# Altium schematic symbol library sun_library2.SchLib: 548 symbols (part 2 of 5)
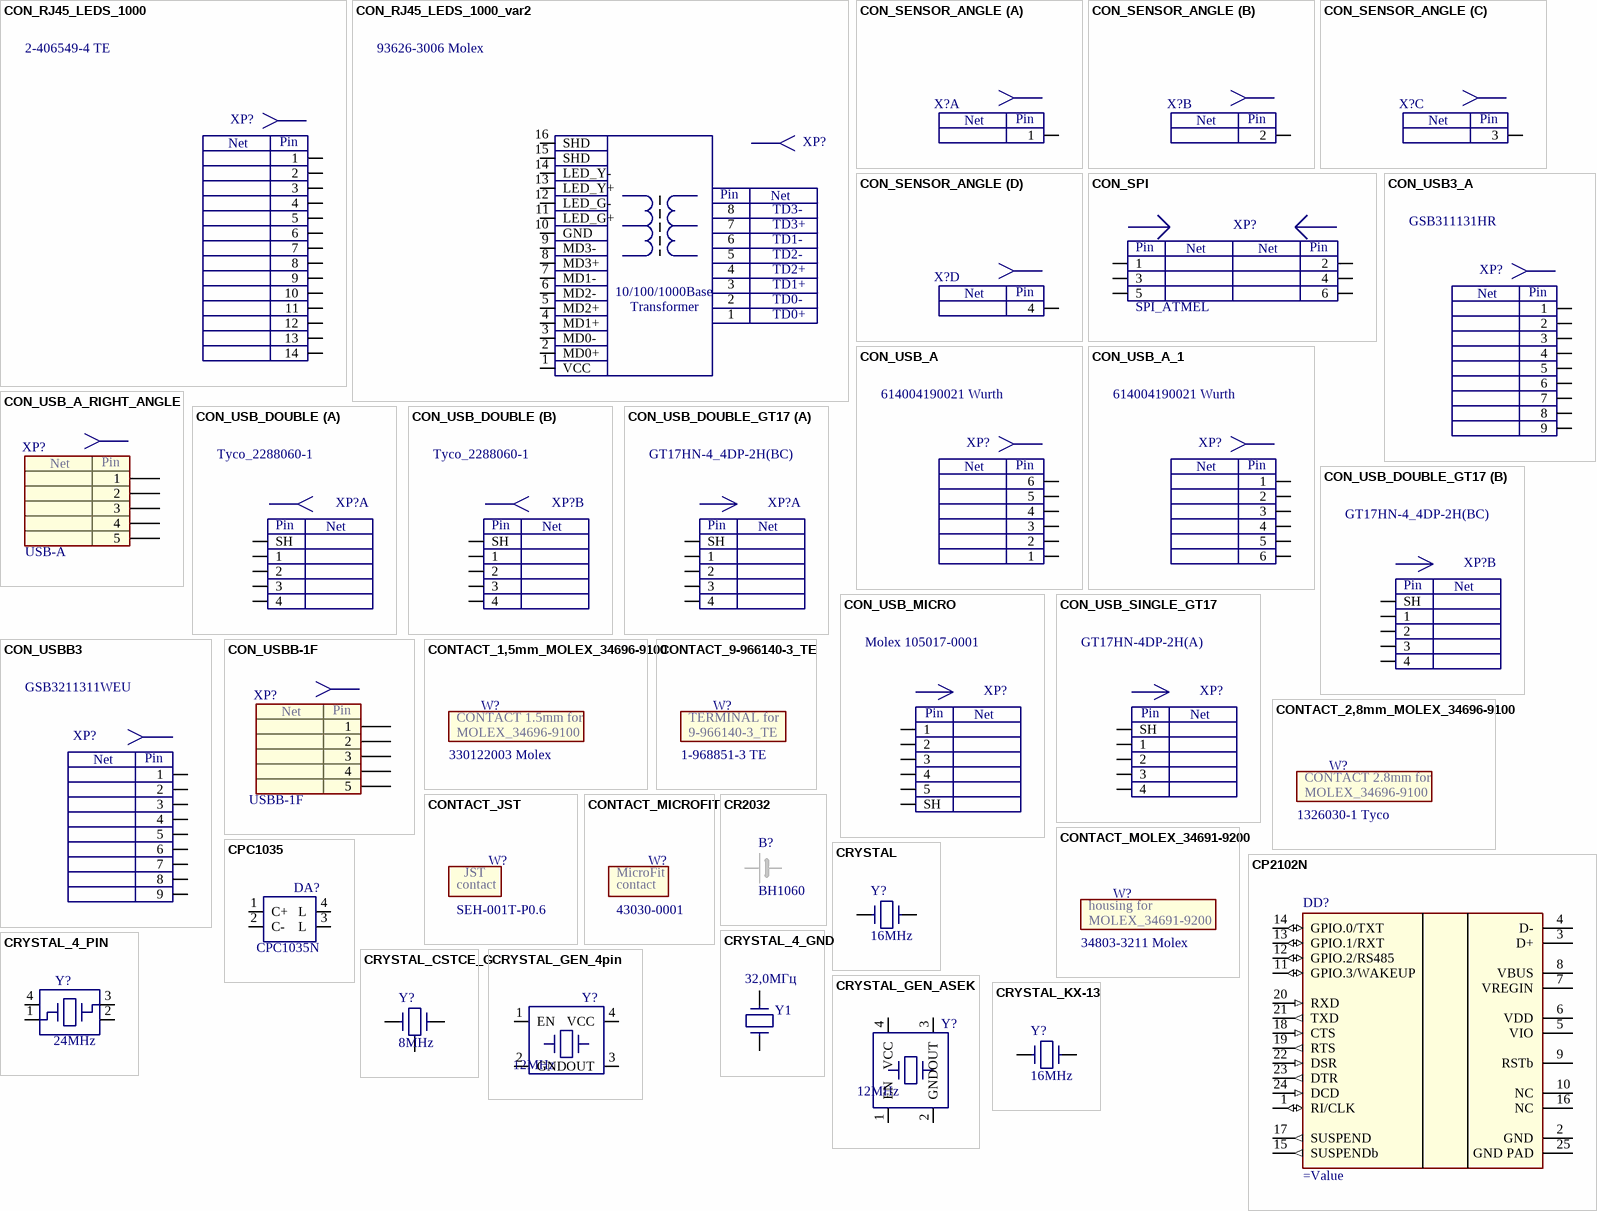
[diagram p46: symbols CON_RJ45_LEDS_1000 to CRYSTAL_KX-13]

## CP2102N
designator DD?
USB Interface IC USBXpress - USB to UART Bridge QFN20
pins: 1 RI/CLK (io), 2 GND (power), 3 D+, 4 D-, 5 VIO, 6 VDD, 7 VREGIN, 8 VBUS, 9 RSTb, 10 NC, 11 GPIO.3/WAKEUP (io), 12 GPIO.2/RS485 (io), 13 GPIO.1/RXT (io), 14 GPIO.0/TXT (io), 15 SUSPENDb (out), 16 NC, 17 SUSPEND (out), 18 CTS (in), 19 RTS (out), 20 RXD (in), 21 TXD (out), 22 DSR (in), 23 DTR (out), 24 DCD (in), 25 GND PAD (power)

## CPC1035
designator DA?, comment CPC1035N
м/сх; Value: CPC1035N
pins: 1 C+ (power), 2 C-, 3 L, 4 L

## CR2032
designator B?, comment BH1060
Держатель батарее CR2032; Value: BH1060
pins: 1, 2

## CRYSTAL
designator Y?, comment 16MHz
Резонатор кварцевый; Value: 16MHz
pins: 1, 2

## CRYSTAL_4_GND
designator Y1, comment 32,0МГц
Резонатор кварцевый; Value: 32,0МГц
footprint XTAL_2016
pins: 1, 2 GND hidden to GND, 3, 4 GND hidden to GND

## CRYSTAL_4_PIN
designator Y?, comment 24MHz
Резонатор кварцевый; Value: 24MHz
pins: 1, 2, 3, 4

## CRYSTAL_CSTCE_G
designator Y?, comment 8MHz
Резонатор кварцевый; Value: 8MHz
pins: 1, 2, 3

## CRYSTAL_GEN_4pin
designator Y?, comment 12MHz
Генератор кварцевый; Value: 12MHz
pins: 1 EN, 2 GND, 3 OUT, 4 VCC

## CRYSTAL_GEN_ASEK
designator Y?, comment 12MHz
Генератор кварцевый; Value: 12MHz
pins: 1 EN, 2 GND, 3 OUT, 4 VCC

## CRYSTAL_KX-13
designator Y?, comment 16MHz
Резонатор кварцевый; Value: 16MHz
pins: 1, 3

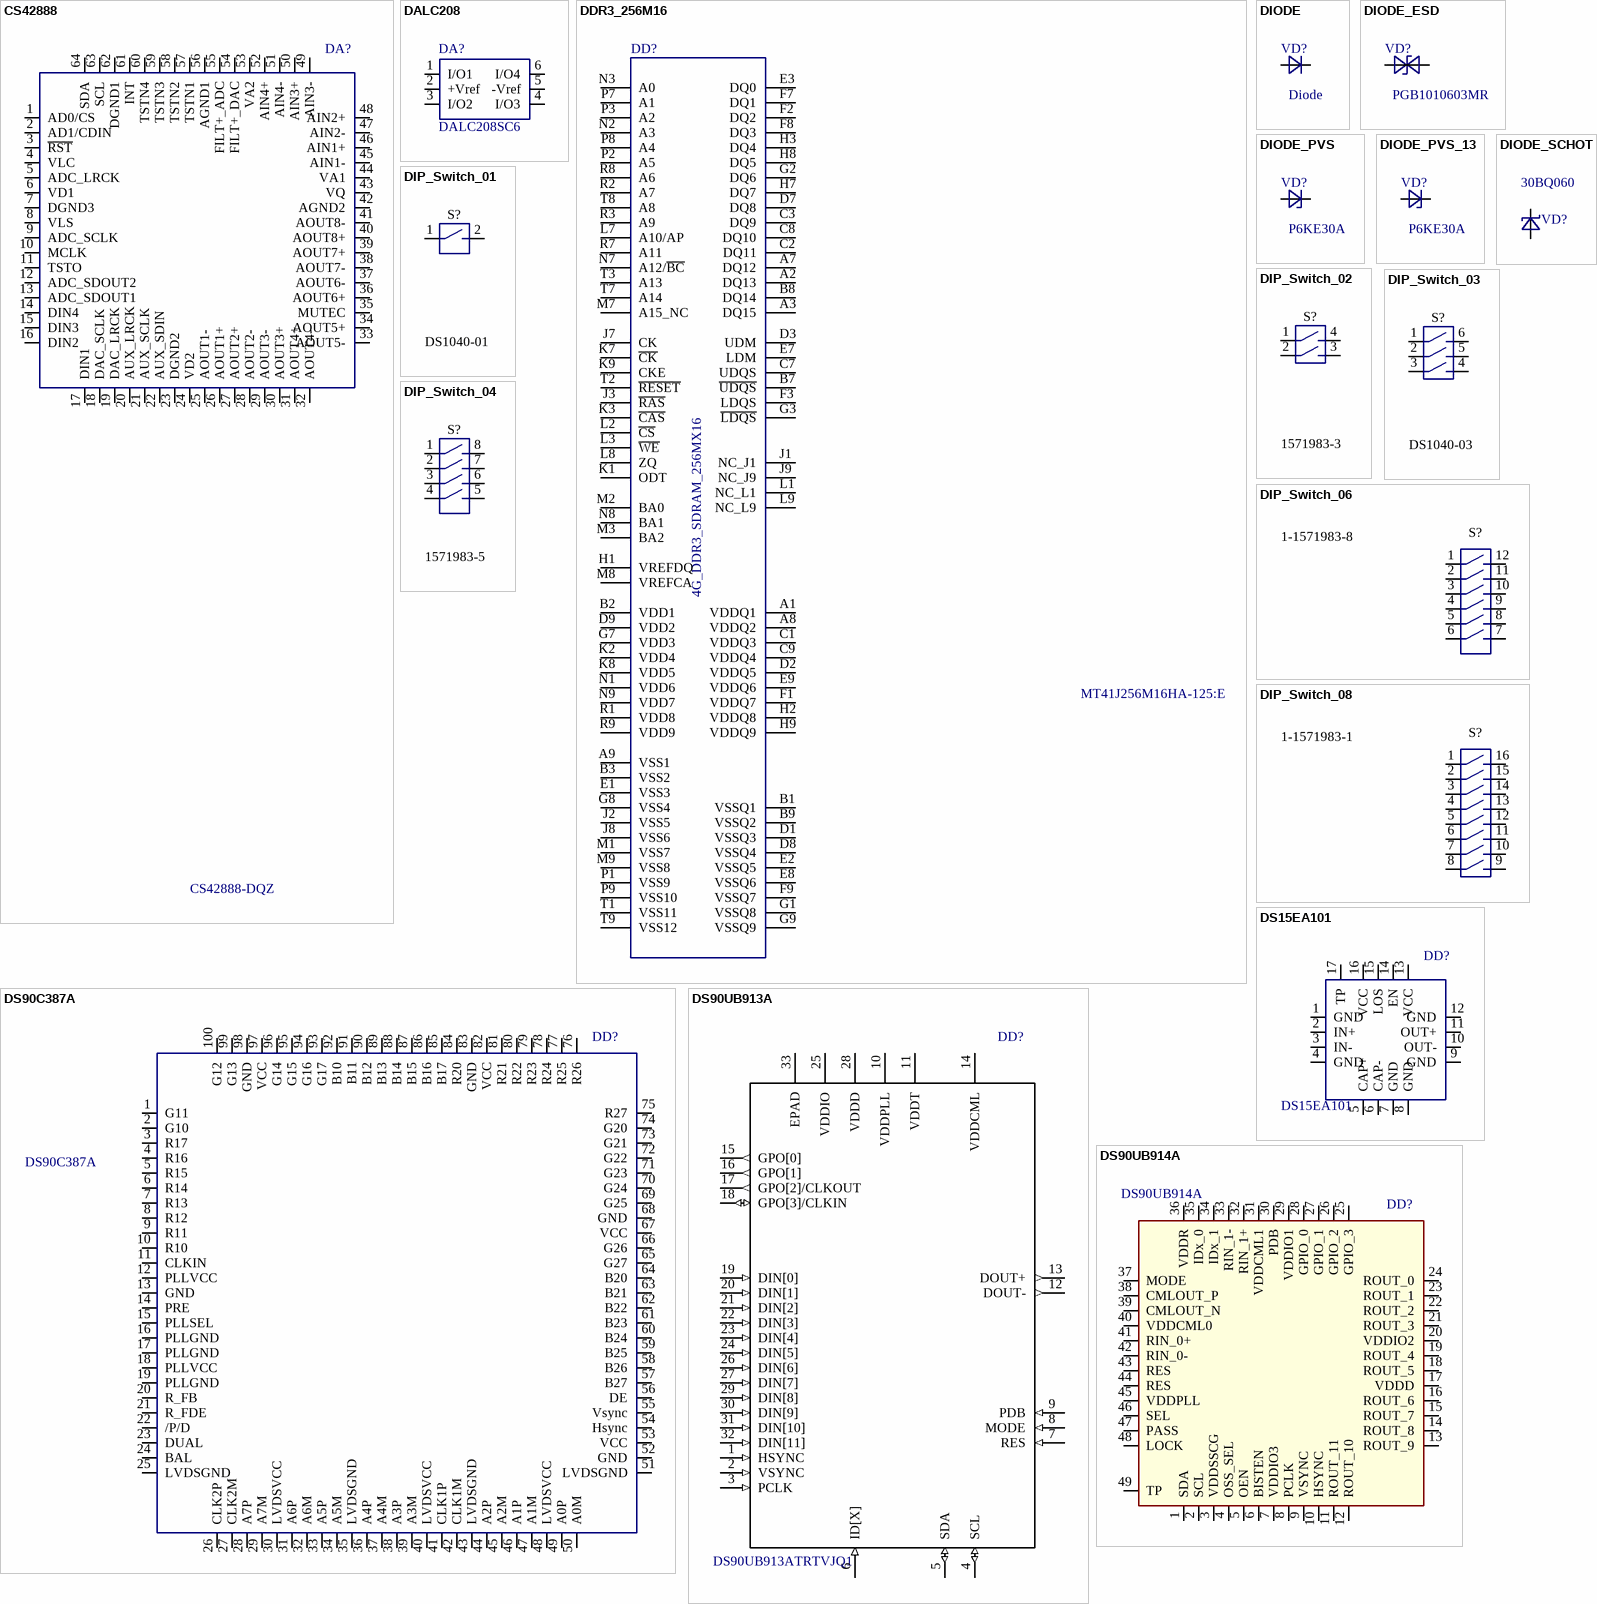
[diagram p13: symbols CS42888 to DS90UB914A]

## CS42888
designator DA?, comment CS42888-DQZ
IC CODEC 4IN 8OUT 192KHZ 64-LQFP; Value: CS42888-DQZ
pins: 1 AD0/CS, 2 AD1/CDIN, 3 ~{RST}, 4 VLC, 5 ADC_LRCK, 6 VD1, 7 DGND3, 8 VLS, 9 ADC_SCLK, 10 MCLK, 11 TSTO, 12 ADC_SDOUT2, 13 ADC_SDOUT1, 14 DIN4, 15 DIN3, 16 DIN2, 17 DIN1, 18 DAC_SCLK, 19 DAC_LRCK, 20 AUX_LRCK, 21 AUX_SCLK, 22 AUX_SDIN, 23 DGND2, 24 VD2, 25 AOUT1-, 26 AOUT1+, 27 AOUT2+, 28 AOUT2-, 29 AOUT3-, 30 AOUT3+, 31 AOUT4+, 32 AOUT4-, 33 AOUT5-, 34 AOUT5+, 35 MUTEC, 36 AOUT6+, 37 AOUT6-, 38 AOUT7-, 39 AOUT7+, 40 AOUT8+, 41 AOUT8-, 42 AGND2, 43 VQ, 44 VA1, 45 AIN1-, 46 AIN1+, 47 AIN2-, 48 AIN2+, 49 AIN3-, 50 AIN3+, 51 AIN4-, 52 AIN4+, 53 VA2, 54 FILT+_DAC, 55 FILT+_ADC, 56 AGND1, 57 TSTN1, 58 TSTN2, 59 TSTN3, 60 TSTN4, 61 INT, 62 DGND1, 63 SCL, 64 SDA

## DALC208
designator DA?, comment DALC208SC6
Low capacitance diode array; Value: DALC208SC6
footprint SOT23-6 (SOT23, 6-Leads, Body 2.9x1.6mm, Pitch 0.95mm, Lead Span 2.7mm, IPC Medium Density)
pins: 1 I/O1, 2 +Vref, 3 I/O2, 4 I/O3, 5 -Vref, 6 I/O4

## DDR3_256M16
designator DD?, comment MT41J256M16HA-125:E
IC DDR3 SDRAM 4GBIT 800MHZ FBGA; Value: MT41J256M16HA-125:E
pins: A1 VDDQ1, A2 DQ13, A3 DQ15, A7 DQ12, A8 VDDQ2, A9 VSS1, B1 VSSQ1, B2 VDD1, B3 VSS2, B7 ~{UDQS}, B8 DQ14, B9 VSSQ2, C1 VDDQ3, C2 DQ11, C3 DQ9, C7 UDQS, C8 DQ10, C9 VDDQ4, D1 VSSQ3, D2 VDDQ5, D3 UDM, D7 DQ8, D8 VSSQ4, D9 VDD2, E1 VSS3, E2 VSSQ5, E3 DQ0, E7 LDM, E8 VSSQ6, E9 VDDQ6, F1 VDDQ7, F2 DQ2, F3 LDQS, F7 DQ1, F8 DQ3, F9 VSSQ7, G1 VSSQ8, G2 DQ6, G3 ~{LDQS}, G7 VDD3, G8 VSS4, G9 VSSQ9, H1 VREFDQ, H2 VDDQ8, H3 DQ4, H7 DQ7, H8 DQ5, H9 VDDQ9, J1 NC_J1, J2 VSS5, J3 ~{RAS}, J7 CK, J8 VSS6, J9 NC_J9, K1 ODT, K2 VDD4, K3 ~{CAS}, K7 ~{CK}, K8 VDD5, K9 CKE, L1 NC_L1, L2 ~{CS}, L3 ~{WE}, L7 A10/AP, L8 ZQ, L9 NC_L9, M1 VSS7, M2 BA0, M3 BA2, M7 A15_NC, M8 VREFCA, M9 VSS8, N1 VDD6, N2 A3, N3 A0, N7 A12/~{BC}, N8 BA1, N9 VDD7, P1 VSS9, P2 A5, P3 A2, P7 A1, P8 A4, P9 VSS10, R1 VDD8, R2 A7, R3 A9, R7 A11, R8 A6, R9 VDD9, T1 VSS11, T2 ~{RESET}, T3 A13, T7 A14, T8 A8, T9 VSS12
text: 4G_DDR3_SDRAM_256MX16

## DIODE
designator VD?, comment Diode
диод, SMD; Value: Diode
pins: 1 C, 2 A

## DIODE_ESD
designator VD?, comment PGB1010603MR
диод, ESD защиты SMD; Value: PGB1010603MR
pins: 1 C, 2 A

## DIODE_PVS
designator VD?, comment P6KE30A
диод, SMD; Value: P6KE30A
pins: 1 C, 2 A

## DIODE_PVS_13
designator VD?, comment P6KE30A
диод, SMD; Value: P6KE30A
pins: 1 C, 2 A

## DIODE_SCHOT
designator VD?, comment 30BQ060
DIODE_SCHOTTKE; Value: 30BQ060
pins: 1 C, 2 A

## DIP_Switch_01
designator S?, comment DS1040-01
Переключатель DIP_Switch_01; Value: DS1040-01
pins: 1, 2

## DIP_Switch_02
designator S?, comment 1571983-3
Переключатель 1-1571983-3 TE Connectivity; Value: 1571983-3
pins: 1, 2, 3, 4

## DIP_Switch_03
designator S?, comment DS1040-03
Переключатель DIP_Switch_03; Value: DS1040-03
pins: 1, 2, 3, 4, 5, 6

## DIP_Switch_04
designator S?, comment 1571983-5
Переключатель 1-1571983-5 TE Connectivity; Value: 1571983-5
pins: 1, 2, 3, 4, 5, 6, 7, 8

## DIP_Switch_06
designator S?, comment 1-1571983-8
Переключатель 1-1571983-8 TE Connectivity; Value: 1-1571983-8
pins: 1, 2, 3, 4, 5, 6, 7, 8, 9, 10, 11, 12

## DIP_Switch_08
designator S?, comment 1-1571983-1
Переключатель 1-1571983-1 TE Connectivity; Identifier: 1-1571983-1 TE Connectivity; Manufacturer: TE Connectivity; Part Number: 1-1571983-1; Operating Temperature: -30 to 85 °C; Value: 1-1571983-1
footprint DIP_SW-8
pins: 1, 2, 3, 4, 5, 6, 7, 8, 9, 10, 11, 12, 13, 14, 15, 16

## DS15EA101
designator DD?
Value: DS15EA101
footprint SQA16A (16-pin LLC)
pins: 1 GND, 2 IN+, 3 IN-, 4 GND, 5 CAP+, 6 CAP-, 7 GND, 8 GND, 9 GND, 10 OUT-, 11 OUT+, 12 GND, 13 VCC, 14 EN, 15 LOS, 16 VCC, 17 TP

## DS90C387A
designator DD?
DS90C387A Dual Pixel LVDS Display Interface; Value: DS90C387A
pins: 1 G11, 2 G10, 3 R17, 4 R16, 5 R15, 6 R14, 7 R13, 8 R12, 9 R11, 10 R10, 11 CLKIN, 12 PLLVCC, 13 GND, 14 PRE, 15 PLLSEL, 16 PLLGND, 17 PLLGND, 18 PLLVCC, 19 PLLGND, 20 R_FB, 21 R_FDE, 22 /P/D, 23 DUAL, 24 BAL, 25 LVDSGND, 26 CLK2P, 27 CLK2M, 28 A7P, 29 A7M, 30 LVDSVCC, 31 A6P, 32 A6M, 33 A5P, 34 A5M, 35 LVDSGND, 36 A4P, 37 A4M, 38 A3P, 39 A3M, 40 LVDSVCC, 41 CLK1P, 42 CLK1M, 43 LVDSGND, 44 A2P, 45 A2M, 46 A1P, 47 A1M, 48 LVDSVCC, 49 A0P, 50 A0M, 51 LVDSGND, 52 GND, 53 VCC, 54 Hsync, 55 Vsync, 56 DE, 57 B27, 58 B26, 59 B25, 60 B24, 61 B23, 62 B22, 63 B21, 64 B20, 65 G27, 66 G26, 67 VCC, 68 GND, 69 G25, 70 G24, 71 G23, 72 G22, 73 G21, 74 G20, 75 R27, 76 R26, 77 R25, 78 R24, 79 R23, 80 R22, 81 R21, 82 VCC, 83 GND, 84 R20, 85 B17, 86 B16, 87 B15, 88 B14, 89 B13, 90 B12, 91 B11, 92 B10, 93 G17, 94 G16, 95 G15, 96 G14, 97 VCC, 98 GND, 99 G13, 100 G12

## DS90UB913A
designator DD?, comment DS90UB913ATRTVJQ1
No Description Available
pins: 1 HSYNC (in), 2 VSYNC (in), 3 PCLK (in), 4 SCL (io), 5 SDA (io), 6 ID[X] (in), 7 RES (in), 8 MODE (in), 9 PDB (in), 10 VDDPLL (power), 11 VDDT (power), 12 DOUT- (out), 13 DOUT+ (out), 14 VDDCML (power), 15 GPO[0] (out), 16 GPO[1] (out), 17 GPO[2]/CLKOUT (out), 18 GPO[3]/CLKIN (io), 19 DIN[0] (in), 20 DIN[1] (in), 21 DIN[2] (in), 22 DIN[3] (in), 23 DIN[4] (in), 24 DIN[5] (in), 25 VDDIO (power), 26 DIN[6] (in), 27 DIN[7] (in), 28 VDDD (power), 29 DIN[8] (in), 30 DIN[9] (in), 31 DIN[10] (in), 32 DIN[11] (in), 33 EPAD

## DS90UB914A
designator DD?
Микросхема; Manufacturer: Texas Instruments; Part Number: DS90UB914ATRHS; Identifier: DS90UB914A WQFN48 Texas Instruments; Case: WQFN48; Operating Temperature: -40°C to 105°C; Value: DS90UB914A
pins: 1 SDA, 2 SCL, 3 VDDSSCG, 4 OSS_SEL, 5 OEN, 6 BISTEN, 7 VDDIO3, 8 PCLK, 9 VSYNC, 10 HSYNC, 11 ROUT_11, 12 ROUT_10, 13 ROUT_9, 14 ROUT_8, 15 ROUT_7, 16 ROUT_6, 17 VDDD, 18 ROUT_5, 19 ROUT_4, 20 VDDIO2, 21 ROUT_3, 22 ROUT_2, 23 ROUT_1, 24 ROUT_0, 25 GPIO_3, 26 GPIO_2, 27 GPIO_1, 28 GPIO_0, 29 VDDIO1, 30 PDB, 31 VDDCML1, 32 RIN_1+, 33 RIN_1-, 34 IDx_1, 35 IDx_0, 36 VDDR, 37 MODE, 38 CMLOUT_P, 39 CMLOUT_N, 40 VDDCML0, 41 RIN_0+, 42 RIN_0-, 43 RES, 44 RES, 45 VDDPLL, 46 SEL, 47 PASS, 48 LOCK, 49 TP

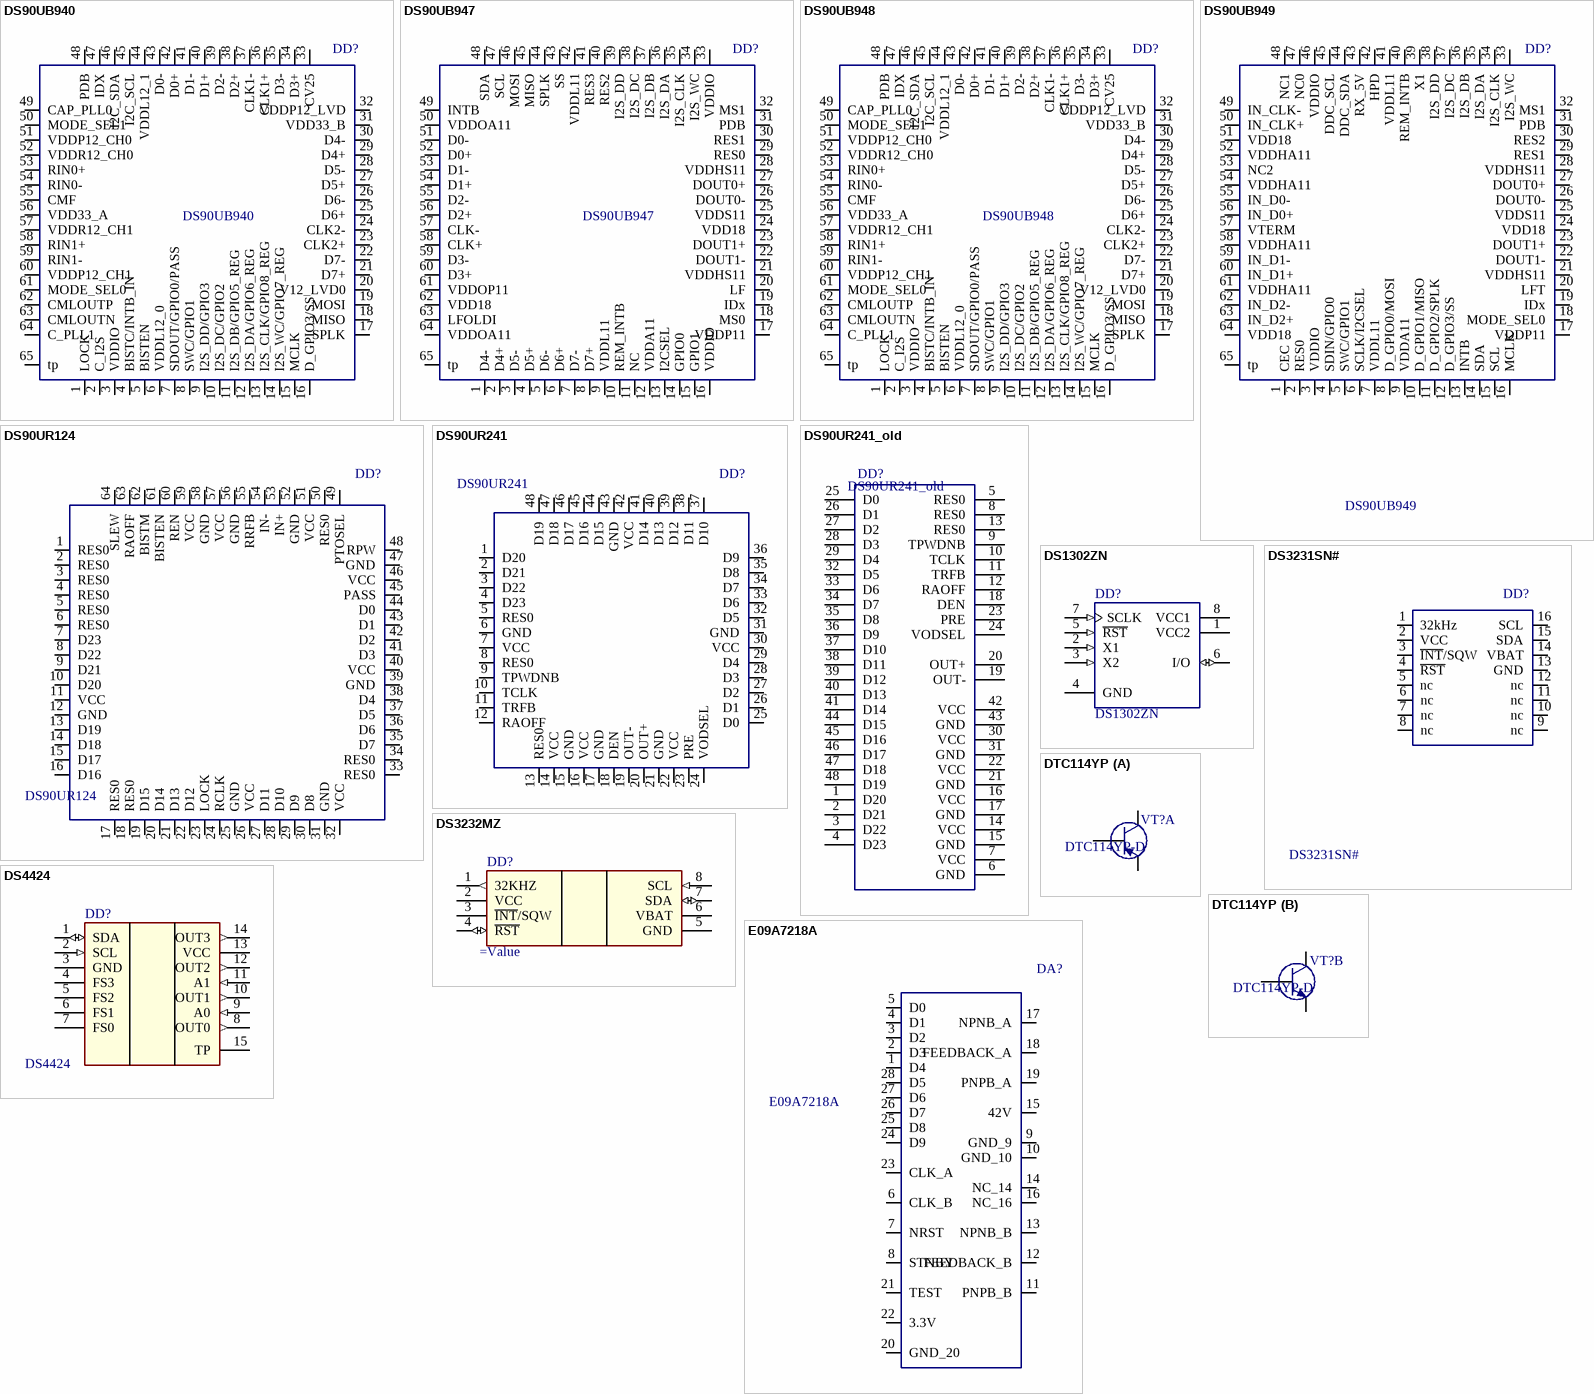
[diagram p14: symbols DS90UB940 to E09A7218A]

## DS90UB940
designator DD?
FPD-Link III to CSI-2 Deserializer; Value: DS90UB940
pins: 1 LOCK, 2 C_I2S, 3 VDDIO, 4 BISTC/INTB_IN, 5 BISTEN, 6 VDDL12_0, 7 SDOUT/GPIO0/PASS, 8 SWC/GPIO1, 9 I2S_DD/GPIO3, 10 I2S_DC/GPIO2, 11 I2S_DB/GPIO5_REG, 12 I2S_DA/GPIO6_REG, 13 I2S_CLK/GPIO8_REG, 14 I2S_WC/GPIO7_REG, 15 MCLK, 16 D_GPIO3/SS, 17 SPLK, 18 MISO, 19 MOSI, 20 V12_LVD0, 21 D7+, 22 D7-, 23 CLK2+, 24 CLK2-, 25 D6+, 26 D6-, 27 D5+, 28 D5-, 29 D4+, 30 D4-, 31 VDD33_B, 32 VDDP12_LVD, 33 CV25, 34 D3+, 35 D3-, 36 CLK1+, 37 CLK1-, 38 D2+, 39 D2-, 40 D1+, 41 D1-, 42 D0+, 43 D0-, 44 VDDL12_1, 45 I2C_SCL, 46 I2C_SDA, 47 IDX, 48 PDB, 49 CAP_PLL0, 50 MODE_SEL1, 51 VDDP12_CH0, 52 VDDR12_CH0, 53 RIN0+, 54 RIN0-, 55 CMF, 56 VDD33_A, 57 VDDR12_CH1, 58 RIN1+, 59 RIN1-, 60 VDDP12_CH1, 61 MODE_SEL0, 62 CMLOUTP, 63 CMLOUTN, 64 C_PLL1, 65 tp

## DS90UB947
designator DD?
1080p OpenLDI to FPD-Link III Serializer; Value: DS90UB947
pins: 1 D4-, 2 D4+, 3 D5-, 4 D5+, 5 D6-, 6 D6+, 7 D7-, 8 D7+, 9 VDDL11, 10 REM_INTB, 11 NC, 12 VDDA11, 13 I2CSEL, 14 GPIO0, 15 GPIO1, 16 VDDIO, 17 VDDP11, 18 MS0, 19 IDx, 20 LF, 21 VDDHS11, 22 DOUT1-, 23 DOUT1+, 24 VDD18, 25 VDDS11, 26 DOUT0-, 27 DOUT0+, 28 VDDHS11, 29 RES0, 30 RES1, 31 PDB, 32 MS1, 33 VDDIO, 34 I2S_WC, 35 I2S_CLK, 36 I2S_DA, 37 I2S_DB, 38 I2S_DC, 39 I2S_DD, 40 RES2, 41 RES3, 42 VDDL11, 43 SS, 44 SPLK, 45 MISO, 46 MOSI, 47 SCL, 48 SDA, 49 INTB, 50 VDDOA11, 51 D0-, 52 D0+, 53 D1-, 54 D1+, 55 D2-, 56 D2+, 57 CLK-, 58 CLK+, 59 D3-, 60 D3+, 61 VDDOP11, 62 VDD18, 63 LFOLDI, 64 VDDOA11, 65 tp

## DS90UB948
designator DD?
1080p FPD-Link III to OpenLDI Deserializer; Value: DS90UB948
pins: 1 LOCK, 2 C_I2S, 3 VDDIO, 4 BISTC/INTB_IN, 5 BISTEN, 6 VDDL12_0, 7 SDOUT/GPIO0/PASS, 8 SWC/GPIO1, 9 I2S_DD/GPIO3, 10 I2S_DC/GPIO2, 11 I2S_DB/GPIO5_REG, 12 I2S_DA/GPIO6_REG, 13 I2S_CLK/GPIO8_REG, 14 I2S_WC/GPIO7_REG, 15 MCLK, 16 D_GPIO3/SS, 17 SPLK, 18 MISO, 19 MOSI, 20 V12_LVD0, 21 D7+, 22 D7-, 23 CLK2+, 24 CLK2-, 25 D6+, 26 D6-, 27 D5+, 28 D5-, 29 D4+, 30 D4-, 31 VDD33_B, 32 VDDP12_LVD, 33 CV25, 34 D3+, 35 D3-, 36 CLK1+, 37 CLK1-, 38 D2+, 39 D2-, 40 D1+, 41 D1-, 42 D0+, 43 D0-, 44 VDDL12_1, 45 I2C_SCL, 46 I2C_SDA, 47 IDX, 48 PDB, 49 CAP_PLL0, 50 MODE_SEL1, 51 VDDP12_CH0, 52 VDDR12_CH0, 53 RIN0+, 54 RIN0-, 55 CMF, 56 VDD33_A, 57 VDDR12_CH1, 58 RIN1+, 59 RIN1-, 60 VDDP12_CH1, 61 MODE_SEL0, 62 CMLOUTP, 63 CMLOUTN, 64 C_PLL1, 65 tp

## DS90UB949
designator DD?
HDMI to FPD-Link III Bridge Serializer; Value: DS90UB949
pins: 1 CEC, 2 RES0, 3 VDDIO, 4 SDIN/GPIO0, 5 SWC/GPIO1, 6 SCLK/I2CSEL, 7 VDDL11, 8 D_GPIO0/MOSI, 9 VDDA11, 10 D_GPIO1/MISO, 11 D_GPIO2/SPLK, 12 D_GPIO3/SS, 13 INTB, 14 SDA, 15 SCL, 16 MCLK, 17 VDDP11, 18 MODE_SEL0, 19 IDx, 20 LFT, 21 VDDHS11, 22 DOUT1-, 23 DOUT1+, 24 VDD18, 25 VDDS11, 26 DOUT0-, 27 DOUT0+, 28 VDDHS11, 29 RES1, 30 RES2, 31 PDB, 32 MS1, 33 I2S_WC, 34 I2S_CLK, 35 I2S_DA, 36 I2S_DB, 37 I2S_DC, 38 I2S_DD, 39 X1, 40 REM_INTB, 41 VDDL11, 42 HPD, 43 RX_5V, 44 DDC_SDA, 45 DDC_SCL, 46 VDDIO, 47 NC0, 48 NC1, 49 IN_CLK-, 50 IN_CLK+, 51 VDD18, 52 VDDHA11, 53 NC2, 54 VDDHA11, 55 IN_D0-, 56 IN_D0+, 57 VTERM, 58 VDDHA11, 59 IN_D1-, 60 IN_D1+, 61 VDDHA11, 62 IN_D2-, 63 IN_D2+, 64 VDD18, 65 tp

## DS90UR124
designator DD?
LVDS 1:24 Deserializer; Value: DS90UR124
footprint LQFP64 (Footprint not found)
pins: 1 RES0, 2 RES0, 3 RES0, 4 RES0, 5 RES0, 6 RES0, 7 D23, 8 D22, 9 D21, 10 D20, 11 VCC (power), 12 GND (power), 13 D19, 14 D18, 15 D17, 16 D16, 17 RES0, 18 RES0, 19 D15, 20 D14, 21 D13, 22 D12, 23 LOCK, 24 RCLK, 25 GND (power), 26 VCC (power), 27 D11, 28 D10, 29 D9, 30 D8, 31 GND (power), 32 VCC (power), 33 RES0, 34 RES0, 35 D7, 36 D6, 37 D5, 38 D4, 39 GND (power), 40 VCC (power), 41 D3, 42 D2, 43 D1, 44 D0, 45 PASS, 46 VCC (power), 47 GND (power), 48 RPW, 49 PTOSEL, 50 RES0, 51 VCC (power), 52 GND (power), 53 IN+, 54 IN-, 55 RRFB, 56 GND (power), 57 VCC (power), 58 GND (power), 59 VCC (power), 60 REN, 61 BISTEN, 62 BISTM, 63 RAOFF, 64 SLEW

## DS90UR241
designator DD?
м/сх; Value: DS90UR241
pins: 1 D20, 2 D21, 3 D22, 4 D23, 5 RES0, 6 GND (power), 7 VCC (power), 8 RES0, 9 TPWDNB, 10 TCLK, 11 TRFB, 12 RAOFF, 13 RES0, 14 VCC (power), 15 GND (power), 16 VCC (power), 17 GND (power), 18 DEN, 19 OUT-, 20 OUT+, 21 GND (power), 22 VCC (power), 23 PRE, 24 VODSEL, 25 D0, 26 D1, 27 D2, 28 D3, 29 D4, 30 VCC (power), 31 GND (power), 32 D5, 33 D6, 34 D7, 35 D8, 36 D9, 37 D10, 38 D11, 39 D12, 40 D13, 41 D14, 42 VCC (power), 43 GND (power), 44 D15, 45 D16, 46 D17, 47 D18, 48 D19

## DS90UR241_old
designator DD?
м/сх; Value: DS90UR241_old
pins: 1 D20, 2 D21, 3 D22, 4 D23, 5 RES0, 6 GND (power), 7 VCC (power), 8 RES0, 9 TPWDNB, 10 TCLK, 11 TRFB, 12 RAOFF, 13 RES0, 14 VCC (power), 15 GND (power), 16 VCC (power), 17 GND (power), 18 DEN, 19 OUT-, 20 OUT+, 21 GND (power), 22 VCC (power), 23 PRE, 24 VODSEL, 25 D0, 26 D1, 27 D2, 28 D3, 29 D4, 30 VCC (power), 31 GND (power), 32 D5, 33 D6, 34 D7, 35 D8, 36 D9, 37 D10, 38 D11, 39 D12, 40 D13, 41 D14, 42 VCC (power), 43 GND (power), 44 D15, 45 D16, 46 D17, 47 D18, 48 D19

## DS1302ZN
designator DD?
Микросхема; Value: DS1302ZN
pins: 1 VCC2 (power), 2 X1 (in), 3 X2 (in), 4 GND (power), 5 ~{RST} (in), 6 I/O (io), 7 SCLK (in), 8 VCC1 (power)

## DS3231SN#
designator DD?
Extremely Accurate I2C-Integrated  RTC/TCXO/Crystal; Value: DS3231SN#
pins: 1 32kHz, 2 VCC, 3 ~{INT}/SQW, 4 ~{RST}, 5 nc, 6 nc, 7 nc, 8 nc, 9 nc, 10 nc, 11 nc, 12 nc, 13 GND, 14 VBAT, 15 SDA, 16 SCL (power)

## DS3232MZ
designator DD?
Микросхема
pins: 1 32KHZ (out), 2 VCC (power), 3 ~{INT}/SQW (oc), 4 ~{RST} (io), 5 GND (power), 6 VBAT (power), 7 SDA (io), 8 SCL (in)

## DS4424
designator DD?
Value: DS4424
footprint TDFN14 (14-Pin Plastic Dual 3x3 Flat No-Lead 0.4 mm Pitch, IPC Low Density)
pins: 1 SDA (io), 2 SCL (in), 3 GND (power), 4 FS3, 5 FS2, 6 FS1, 7 FS0, 8 OUT0 (out), 9 A0 (in), 10 OUT1 (out), 11 A1 (in), 12 OUT2 (out), 13 VCC (power), 14 OUT3 (out), 15 TP (power)

## DTC114YP
designator VT?, comment DTC114YP-D
Value: DTC114YP-D
part A pins: 3 C, 4 E, 5 B
part B pins: 1 E, 2 B, 6 C

## E09A7218A
designator DA?
DAC EPSON; Value: E09A7218A
pins: 1 D4, 2 D3, 3 D2, 4 D1, 5 D0, 6 CLK_B, 7 NRST, 8 STNBY, 9 GND_9, 10 GND_10, 11 PNPB_B, 12 FEEDBACK_B, 13 NPNB_B, 14 NC_14, 15 42V, 16 NC_16, 17 NPNB_A, 18 FEEDBACK_A, 19 PNPB_A, 20 GND_20, 21 TEST, 22 3.3V, 23 CLK_A, 24 D9, 25 D8, 26 D7, 27 D6, 28 D5

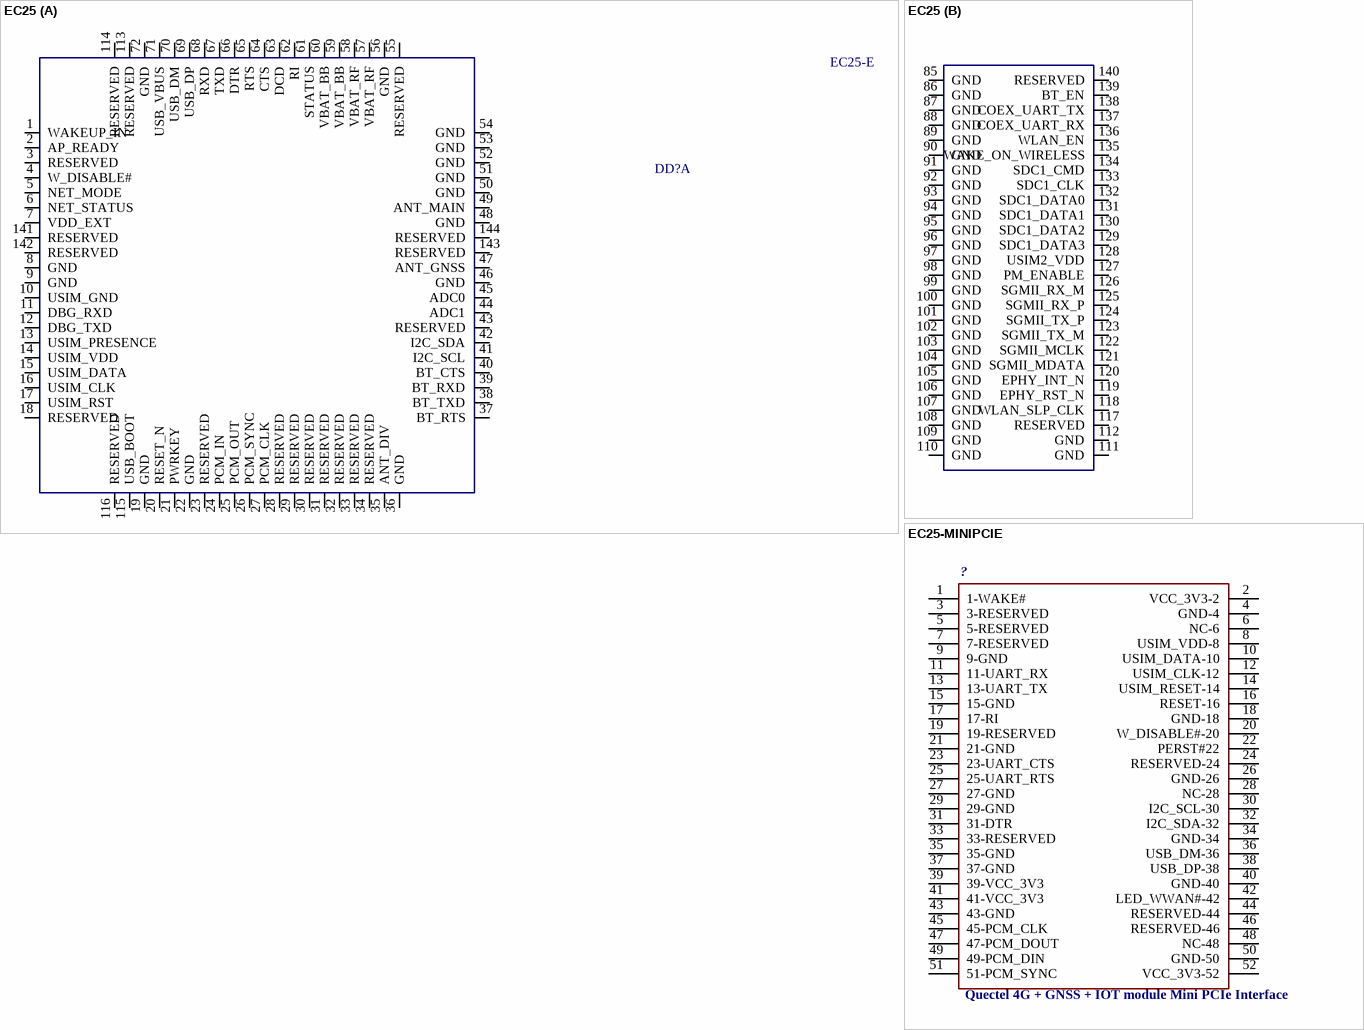
[diagram p15: symbols EC25 to EC25-MINIPCIE]

## EC25
designator DD?, comment EC25-E
Value: EC25-E
part A pins: 1 WAKEUP_IN, 2 AP_READY, 3 RESERVED, 4 W_DISABLE#, 5 NET_MODE, 6 NET_STATUS, 7 VDD_EXT, 8 GND, 9 GND, 10 USIM_GND, 11 DBG_RXD, 12 DBG_TXD, 13 USIM_PRESENCE, 14 USIM_VDD, 15 USIM_DATA, 16 USIM_CLK, 17 USIM_RST, 18 RESERVED, 19 GND, 20 RESET_N, 21 PWRKEY, 22 GND, 23 RESERVED, 24 PCM_IN, 25 PCM_OUT, 26 PCM_SYNC, 27 PCM_CLK, 28 RESERVED, 29 RESERVED, 30 RESERVED, 31 RESERVED, 32 RESERVED, 33 RESERVED, 34 RESERVED, 35 ANT_DIV, 36 GND, 37 BT_RTS, 38 BT_TXD, 39 BT_RXD, 40 BT_CTS, 41 I2C_SCL, 42 I2C_SDA, 43 RESERVED, 44 ADC1, 45 ADC0, 46 GND, 47 ANT_GNSS, 48 GND, 49 ANT_MAIN, 50 GND, 51 GND, 52 GND, 53 GND, 54 GND, 55 RESERVED, 56 GND, 57 VBAT_RF, 58 VBAT_RF, 59 VBAT_BB, 60 VBAT_BB, 61 STATUS, 62 RI, 63 DCD, 64 CTS, 65 RTS, 66 DTR, 67 TXD, 68 RXD, 69 USB_DP, 70 USB_DM, 71 USB_VBUS, 72 GND, 113 RESERVED, 114 RESERVED, 115 USB_BOOT, 116 RESERVED, 141 RESERVED, 142 RESERVED, 143 RESERVED, 144 RESERVED
part B pins: 85 GND, 86 GND, 87 GND, 88 GND, 89 GND, 90 GND, 91 GND, 92 GND, 93 GND, 94 GND, 95 GND, 96 GND, 97 GND, 98 GND, 99 GND, 100 GND, 101 GND, 102 GND, 103 GND, 104 GND, 105 GND, 106 GND, 107 GND, 108 GND, 109 GND, 110 GND, 111 GND, 112 GND, 117 RESERVED, 118 WLAN_SLP_CLK, 119 EPHY_RST_N, 120 EPHY_INT_N, 121 SGMII_MDATA, 122 SGMII_MCLK, 123 SGMII_TX_M, 124 SGMII_TX_P, 125 SGMII_RX_P, 126 SGMII_RX_M, 127 PM_ENABLE, 128 USIM2_VDD, 129 SDC1_DATA3, 130 SDC1_DATA2, 131 SDC1_DATA1, 132 SDC1_DATA0, 133 SDC1_CLK, 134 SDC1_CMD, 135 WAKE_ON_WIRELESS, 136 WLAN_EN, 137 COEX_UART_RX, 138 COEX_UART_TX, 139 BT_EN, 140 RESERVED

## EC25-MINIPCIE
designator ?, comment Quectel 4G + GNSS + IOT module Mini PCIe Interface
MPN: Quectel EC25-x Mini Pci express
footprint EC25-MINIPCIE
pins: 1 1-WAKE#, 2 VCC_3V3-2, 3 3-RESERVED, 4 GND-4, 5 5-RESERVED, 6 NC-6, 7 7-RESERVED, 8 USIM_VDD-8, 9 9-GND, 10 USIM_DATA-10, 11 11-UART_RX, 12 USIM_CLK-12, 13 13-UART_TX, 14 USIM_RESET-14, 15 15-GND, 16 RESET-16, 17 17-RI, 18 GND-18, 19 19-RESERVED, 20 W_DISABLE#-20, 21 21-GND, 22 PERST#22, 23 23-UART_CTS, 24 RESERVED-24, 25 25-UART_RTS, 26 GND-26, 27 27-GND, 28 NC-28, 29 29-GND, 30 I2C_SCL-30, 31 31-DTR, 32 I2C_SDA-32, 33 33-RESERVED, 34 GND-34, 35 35-GND, 36 USB_DM-36, 37 37-GND, 38 USB_DP-38, 39 39-VCC_3V3, 40 GND-40, 41 41-VCC_3V3, 42 LED_WWAN#-42, 43 43-GND (power), 44 RESERVED-44, 45 45-PCM_CLK, 46 RESERVED-46, 47 47-PCM_DOUT, 48 NC-48, 49 49-PCM_DIN, 50 GND-50, 51 51-PCM_SYNC, 52 VCC_3V3-52

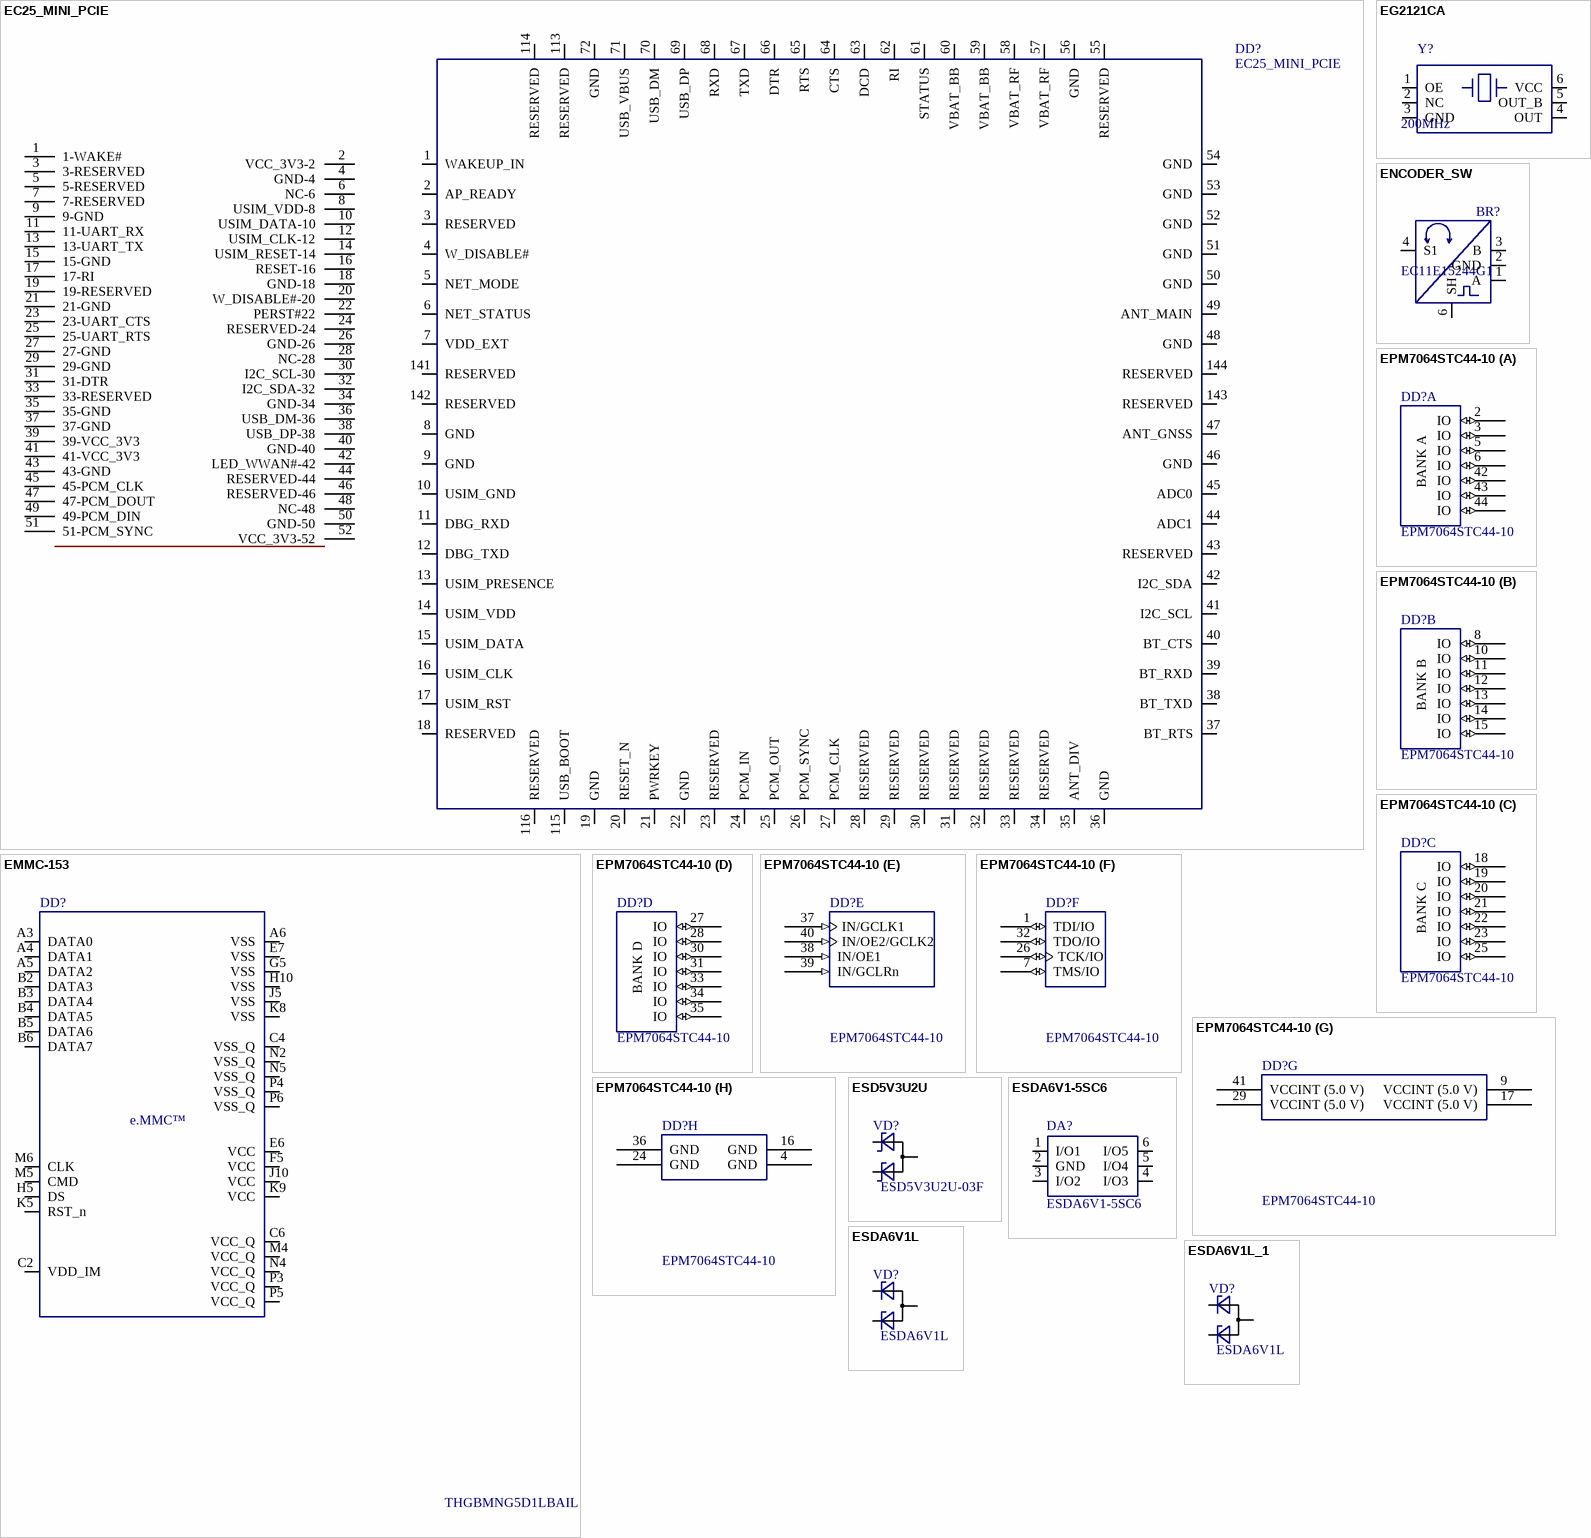
[diagram p16: symbols EC25_MINI_PCIE to ESDA6V1L_1]

## EC25_MINI_PCIE
designator DD?
Quectel EC25-x Mini Pci express; Value: EC25_MINI_PCIE
pins: 1 WAKEUP_IN, 1 1-WAKE#, 2 AP_READY, 2 VCC_3V3-2, 3 RESERVED, 3 3-RESERVED, 4 W_DISABLE#, 4 GND-4, 5 NET_MODE, 5 5-RESERVED, 6 NET_STATUS, 6 NC-6, 7 VDD_EXT, 7 7-RESERVED, 8 GND, 8 USIM_VDD-8, 9 GND, 9 9-GND, 10 USIM_GND, 10 USIM_DATA-10, 11 DBG_RXD, 11 11-UART_RX, 12 DBG_TXD, 12 USIM_CLK-12, 13 USIM_PRESENCE, 13 13-UART_TX, 14 USIM_VDD, 14 USIM_RESET-14, 15 USIM_DATA, 15 15-GND, 16 USIM_CLK, 16 RESET-16, 17 USIM_RST, 17 17-RI, 18 RESERVED, 18 GND-18, 19 GND, 19 19-RESERVED, 20 RESET_N, 20 W_DISABLE#-20, 21 PWRKEY, 21 21-GND, 22 GND, 22 PERST#22, 23 RESERVED, 23 23-UART_CTS, 24 PCM_IN, 24 RESERVED-24, 25 PCM_OUT, 25 25-UART_RTS, 26 PCM_SYNC, 26 GND-26, 27 PCM_CLK, 27 27-GND, 28 RESERVED, 28 NC-28, 29 RESERVED, 29 29-GND, 30 RESERVED, 30 I2C_SCL-30, 31 RESERVED, 31 31-DTR, 32 RESERVED, 32 I2C_SDA-32, 33 RESERVED, 33 33-RESERVED, 34 RESERVED, 34 GND-34, 35 ANT_DIV, 35 35-GND, 36 GND, 36 USB_DM-36, 37 BT_RTS, 37 37-GND, 38 BT_TXD, 38 USB_DP-38, 39 BT_RXD, 39 39-VCC_3V3, 40 BT_CTS, 40 GND-40, 41 I2C_SCL, 41 41-VCC_3V3, 42 I2C_SDA, 42 LED_WWAN#-42, 43 RESERVED, 43 43-GND (power), 44 ADC1, 44 RESERVED-44, 45 ADC0, 45 45-PCM_CLK, 46 GND, 46 RESERVED-46, 47 ANT_GNSS, 47 47-PCM_DOUT, 48 GND, 48 NC-48, 49 ANT_MAIN, 49 49-PCM_DIN, 50 GND, 50 GND-50, 51 GND, 51 51-PCM_SYNC, 52 GND, 52 VCC_3V3-52, 53 GND, 54 GND, 55 RESERVED, 56 GND, 57 VBAT_RF, 58 VBAT_RF, 59 VBAT_BB, 60 VBAT_BB, 61 STATUS, 62 RI, 63 DCD, 64 CTS, 65 RTS, 66 DTR, 67 TXD, 68 RXD, 69 USB_DP, 70 USB_DM, 71 USB_VBUS, 72 GND, 113 RESERVED, 114 RESERVED, 115 USB_BOOT, 116 RESERVED, 141 RESERVED, 142 RESERVED, 143 RESERVED, 144 RESERVED
2 alternate drawings of the same symbol

## EG2121CA
designator Y?, comment 200MHz
Резонатор кварцевый; Value: 200MHz
pins: 1 OE, 2 NC, 3 GND, 4 OUT, 5 OUT_B, 6 VCC

## EMMC-153
designator DD?, comment THGBMNG5D1LBAIL
e.MMC™ Memory WFBGA153; Value: THGBMNG5D1LBAIL
pins: A3 DATA0, A4 DATA1, A5 DATA2, A6 VSS, A7 RFU hidden, B2 DATA3, B3 DATA4, B4 DATA5, B5 DATA6, B6 DATA7, C2 VDD_IM, C4 VSS_Q, C6 VCC_Q, E5 RFU hidden, E6 VCC, E7 VSS, E8 RFU hidden, F5 VCC, G3 RFU hidden, G5 VSS, G10 RFU hidden, H5 DS, H10 VSS, J5 VSS, J10 VCC, K5 RST_n, K6 RFU hidden, K7 RFU hidden, K8 VSS, K9 VCC, K10 RFU hidden, M4 VCC_Q, M5 CMD, M6 CLK, N2 VSS_Q, N4 VCC_Q, N5 VSS_Q, P3 VCC_Q, P4 VSS_Q, P5 VCC_Q, P6 VSS_Q, P7 RFU hidden, P10 RFU hidden
text: e.MMC™

## ENCODER_SW
designator BR?, comment EC11E15244G1
Rotary Encoder Push Button Switch; Value: EC11E15244G1
pins: 1 A (power), 2 GND (power), 3 B (power), 4 S1 (power), 6 SH (power)

## EPM7064STC44-10
designator DD?
Микросхема; Value: EPM7064STC44-10
part A pins: 2 IO (io), 3 IO (io), 5 IO (io), 6 IO (io), 42 IO (io), 43 IO (io), 44 IO (io)
part B pins: 8 IO (io), 10 IO (io), 11 IO (io), 12 IO (io), 13 IO (io), 14 IO (io), 15 IO (io)
part C pins: 18 IO (io), 19 IO (io), 20 IO (io), 21 IO (io), 22 IO (io), 23 IO (io), 25 IO (io)
part D pins: 27 IO (io), 28 IO (io), 30 IO (io), 31 IO (io), 33 IO (io), 34 IO (io), 35 IO (io)
part E pins: 37 IN/GCLK1 (in), 38 IN/OE1 (in), 39 IN/GCLRn (in), 40 IN/OE2/GCLK2 (in)
part F pins: 1 TDI/IO (io), 7 TMS/IO (io), 26 TCK/IO (io), 32 TDO/IO (io)
part G pins: 9 VCCINT (5.0 V) (power), 17 VCCINT (5.0 V) (power), 29 VCCINT (5.0 V) (power), 41 VCCINT (5.0 V) (power)
part H pins: 4 GND (power), 16 GND (power), 24 GND (power), 36 GND (power)
part A text: BANK A
part B text: BANK B
part C text: BANK C
part D text: BANK D

## ESD5V3U2U
designator VD?, comment ESD5V3U2U-03F
диод TVS, SMD; Value: ESD5V3U2U-03F
pins: 1 K1, 2 K2, 3 A

## ESDA6V1-5SC6
designator DA?
Low capacitance diode array; Value: ESDA6V1-5SC6
footprint SOT23-6 (SOT23, 6-Leads, Body 2.9x1.6mm, Pitch 0.95mm, Lead Span 2.7mm, IPC Medium Density)
pins: 1 I/O1, 2 GND, 3 I/O2, 4 I/O3, 5 I/O4, 6 I/O5

## ESDA6V1L
designator VD?
диод TVS, SMD; Value: ESDA6V1L
pins: 1 K1, 2 K2, 3 A

## ESDA6V1L_1
designator VD?, comment ESDA6V1L
диод TVS, SMD; Value: ESDA6V1L
pins: 1 K1, 2 K2, 3 A

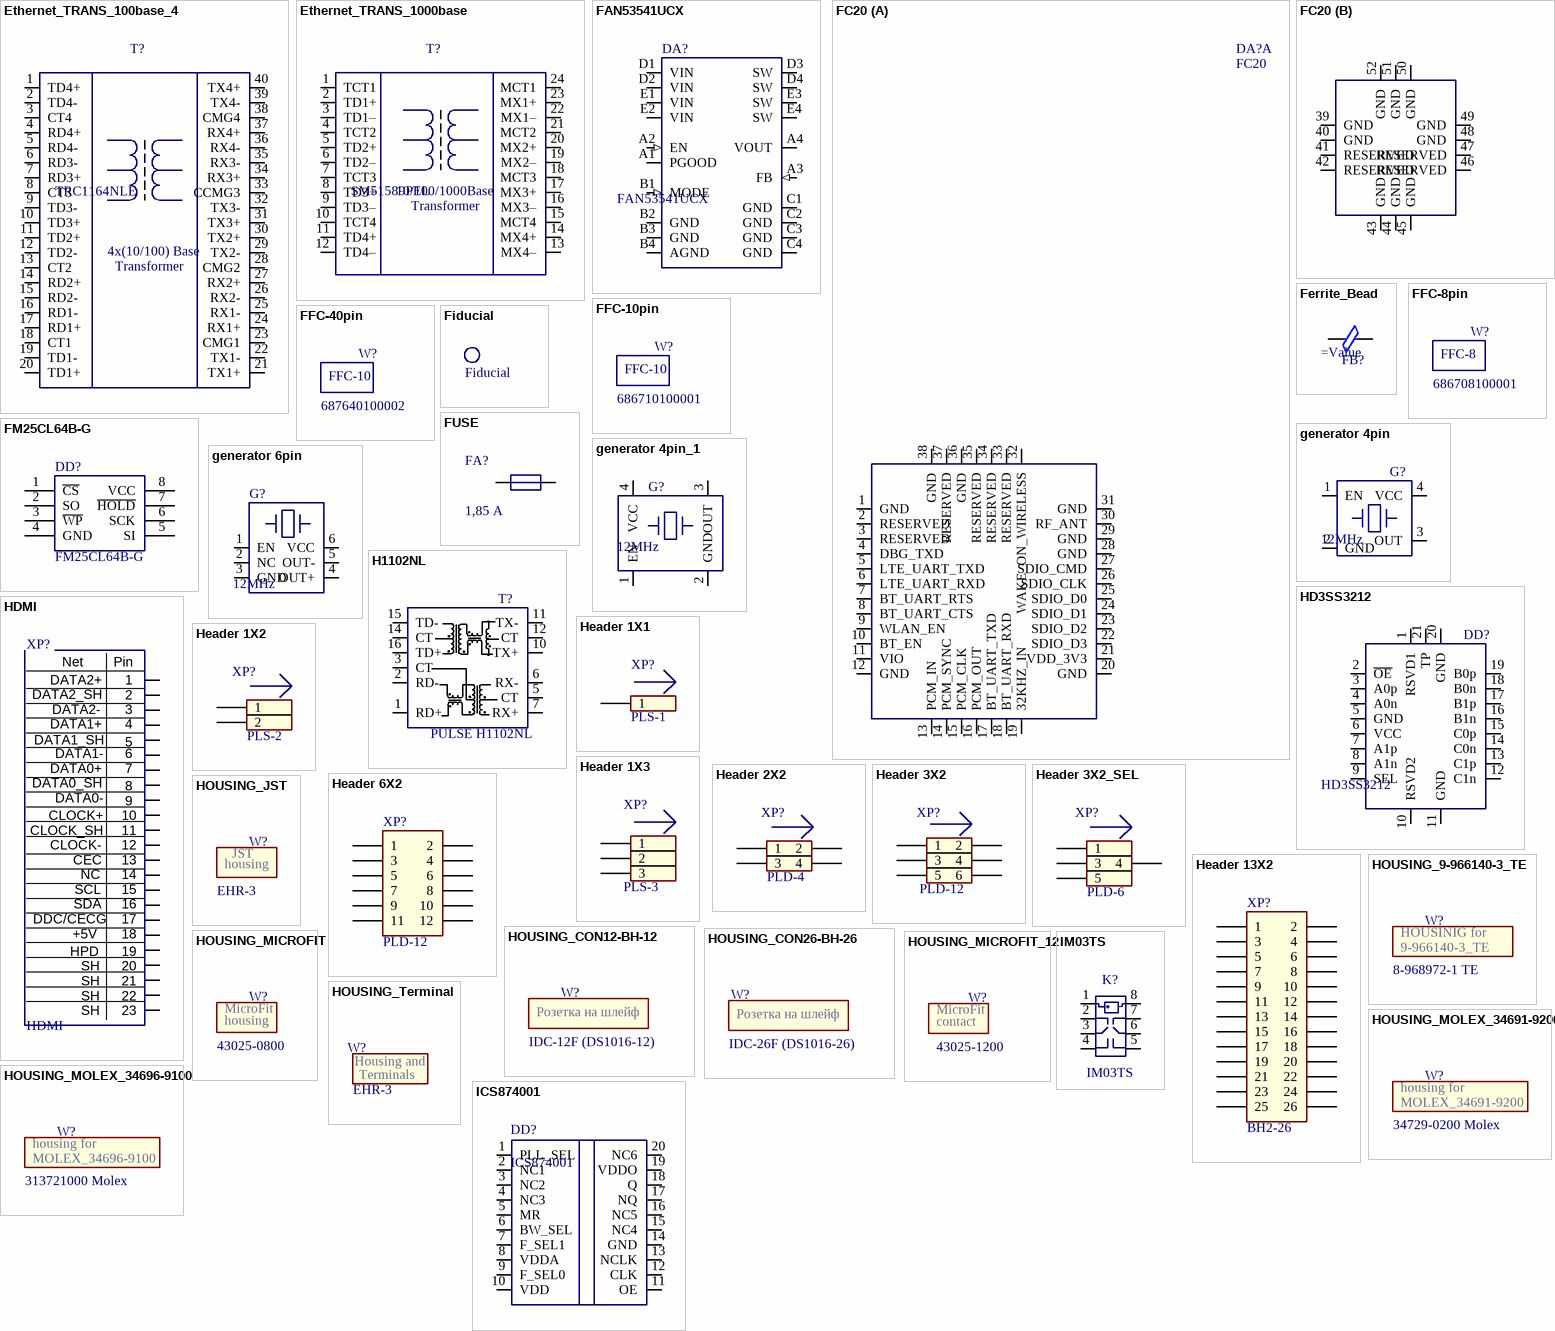
[diagram p17: symbols Ethernet_TRANS_100base_4 to IM03TS]

## Ethernet_TRANS_100base_4
designator T?, comment TRC1164NLE
Ethernet transformer TRC1164NLE Trxcom; Value: TRC1164NLE
pins: 1 TD4+, 2 TD4-, 3 CT4, 4 RD4+, 5 RD4-, 6 RD3-, 7 RD3+, 8 CT3, 9 TD3-, 10 TD3+, 11 TD2+, 12 TD2-, 13 CT2, 14 RD2+, 15 RD2-, 16 RD1-, 17 RD1+, 18 CT1, 19 TD1-, 20 TD1+, 21 TX1+, 22 TX1-, 23 CMG1, 24 RX1+, 25 RX1-, 26 RX2-, 27 RX2+, 28 CMG2, 29 TX2-, 30 TX2+, 31 TX3+, 32 TX3-, 33 CCMG3, 34 RX3+, 35 RX3-, 36 RX4-, 37 RX4+, 38 CMG4, 39 TX4-, 40 TX4+
text: 4x(10/100) Base; Transformer

## Ethernet_TRANS_1000base
designator T?, comment SM51589PEL
Ethernet transformer SM51589PEL Bourns; Value: SM51589PEL
pins: 1 TCT1, 2 TD1+, 3 TD1–, 4 TCT2, 5 TD2+, 6 TD2–, 7 TCT3, 8 TD3+, 9 TD3–, 10 TCT4, 11 TD4+, 12 TD4–, 13 MX4–, 14 MX4+, 15 MCT4, 16 MX3–, 17 MX3+, 18 MCT3, 19 MX2–, 20 MX2+, 21 MCT2, 22 MX1–, 23 MX1+, 24 MCT1
text: 10/100/1000Base; Transformer

## FAN53541UCX
designator DA?
2.4 MHz, 5 A TinyBuck™ Synchronous Buck Regulator; Value: FAN53541UCX
pins: A1 PGOOD (oc), A2 EN (in), A3 FB (in), A4 VOUT, B1 MODE (in), B2 GND, B3 GND, B4 AGND, C1 GND, C2 GND, C3 GND, C4 GND, D1 VIN, D2 VIN, D3 SW, D4 SW, E1 VIN, E2 VIN, E3 SW, E4 SW

## FC20
designator DA?
Part Description: *; PCB DECAL: *
part A pins: 1 GND, 2 RESERVED, 3 RESERVED, 4 DBG_TXD, 5 LTE_UART_TXD, 6 LTE_UART_RXD, 7 BT_UART_RTS, 8 BT_UART_CTS, 9 WLAN_EN, 10 BT_EN, 11 VIO, 12 GND, 13 PCM_IN, 14 PCM_SYNC, 15 PCM_CLK, 16 PCM_OUT, 17 BT_UART_TXD, 18 BT_UART_RXD, 19 32KHZ_IN, 20 GND, 21 VDD_3V3, 22 SDIO_D3, 23 SDIO_D2, 24 SDIO_D1, 25 SDIO_D0, 26 SDIO_CLK, 27 SDIO_CMD, 28 GND, 29 GND, 30 RF_ANT, 31 GND, 32 WAKE_ON_WIRELESS, 33 RESERVED, 34 RESERVED, 35 RESERVED, 36 GND, 37 RESERVED, 38 GND
part B pins: 39 GND, 40 GND, 41 RESERVED, 42 RESERVED, 43 GND, 44 GND, 45 GND, 46 RESERVED, 47 RESERVED, 48 GND, 49 GND, 50 GND, 51 GND, 52 GND

## Ferrite_Bead
designator FB?
Ferrite Bead
footprint BEADC1608X95N
footprint BEADC1608X95M
footprint BEADC1608X95L
pins: 1, 2

## FFC-8pin
designator W?, comment 686708100001
м/сх; Value: 686708100001
pins: 3 NC (power) hidden, 6 B hidden
text: FFC-8

## FFC-10pin
designator W?, comment 686710100001
м/сх; Value: 686710100001
pins: 3 NC (power) hidden, 6 B hidden
text: FFC-10

## FFC-40pin
designator W?, comment 687640100002
м/сх; Value: 687640100002
pins: 3 NC (power) hidden, 6 B hidden
text: FFC-10

## Fiducial
designator fud?  (no BOM)
Fiducial Mark; Value: Fiducial

## FM25CL64B-G
designator DD?
Value: FM25CL64B-G
pins: 1 ~{CS}, 2 SO, 3 ~{WP}, 4 GND, 5 SI, 6 SCK, 7 ~{HOLD}, 8 VCC

## FUSE
designator FA?, comment 1,85 А
Предохранитель 3,7 А 30 В; Value: 1,85 А
pins: 1, 2

## generator 4pin
designator G?, comment 12MHz
Генератор кварцевый; Value: 12MHz
pins: 1 EN, 2 GND, 3 OUT, 4 VCC

## generator 4pin_1
designator G?, comment 12MHz
Генератор кварцевый; Value: 12MHz
pins: 1 EN, 2 GND, 3 OUT, 4 VCC

## generator 6pin
designator G?, comment 12MHz
Генератор кварцевый; Value: 12MHz
pins: 1 EN, 2 NC, 3 GND, 4 OUT+, 5 OUT-, 6 VCC

## H1102NL
designator T?, comment PULSE H1102NL
трансформатор; Value: H1102NL
pins: 1 RD+, 2 RD-, 3 CT, 5 CT, 6 RX-, 7 RX+, 10 TX+, 11 TX-, 12 CT, 14 CT, 15 TD-, 16 TD+

## HD3SS3212
designator DD?
Two-Channel Differential 2:1/1:2 USB3.1 Mux/Demux; Value: HD3SS3212
pins: 1 RSVD1, 2 ~{OE}, 3 A0p, 4 A0n, 5 GND, 6 VCC, 7 A1p, 8 A1n, 9 SEL, 10 RSVD2, 11 GND, 12 C1n, 13 C1p, 14 C0n, 15 C0p, 16 B1n, 17 B1p, 18 B0n, 19 B0p, 20 GND, 21 TP

## HDMI
designator XP?
Manufacturer: Molex; ManufacturerPartNumber: 0471511001
footprint HDMI
pins: 1 DATA2+, 2 DATA2_SH, 3 DATA2-, 4 DATA1+, 5 DATA1_SH, 6 DATA1-, 7 DATA10+, 8 DATA10_SH, 9 DATA0-, 10 CLOCK+, 11 CLOCK_SH, 12 CLOCK-, 13 CEC, 14 NC, 15 SCL, 16 SDA, 17 DDCG, 18 +5V, 19 HPL, 20 SH, 21 SH, 22 SH, 23
text: Net; Pin; DATA0+; DATA0_SH; DDC/CECG; HPD

## Header 1X1
designator XP?, comment PLS-1
Штыри однорядные, 1х1; Value: PLS-1
pins: 1

## Header 1X2
designator XP?, comment PLS-2
Штыри однорядные, 1х2; Value: PLS-2
pins: 1, 2

## Header 1X3
designator XP?, comment PLS-3
Штыри однорядные, 1х3; Value: PLS-3
pins: 1, 2, 3

## Header 2X2
designator XP?, comment PLD-4
Штыри двухрядные, 2х2; Value: PLD-4
pins: 1, 2, 3, 4

## Header 3X2
designator XP?, comment PLD-12
Вилка на плату двухрядная; Value: PLD-12
pins: 1, 2, 3, 4, 5, 6

## Header 3X2_SEL
designator XP?, comment PLD-6
Вилка на плату двухрядная; Value: PLD-6
pins: 1, 3, 4, 5

## Header 6X2
designator XP?, comment PLD-12
Вилка на плату двухрядная; Value: PLD-12
pins: 1, 2, 3, 4, 5, 6, 7, 8, 9, 10, 11, 12

## Header 13X2
designator XP?, comment BH2-26
Вилка на плату, шаг 2.0мм; Value: BH2-26
pins: 1, 2, 3, 4, 5, 6, 7, 8, 9, 10, 11, 12, 13, 14, 15, 16, 17, 18, 19, 20, 21, 22, 23, 24, 25, 26

## HOUSING_9-966140-3_TE
designator W?, comment 8-968972-1 TE  (mechanical)
EHR-3  header for JST connector EH series; Value: 8-968972-1 TE
pins: 3 NC (power) hidden, 6 B hidden
text: HOUSINIG for; 9-966140-3_TE

## HOUSING_CON12-BH-12
designator W?, comment IDC-12F (DS1016-12)  (mechanical)
Value: IDC-12F (DS1016-12)
pins: 3 NC (power) hidden, 6 B hidden
text: Розетка на шлейф

## HOUSING_CON26-BH-26
designator W?, comment IDC-26F (DS1016-26)  (mechanical)
Value: IDC-26F (DS1016-26)
pins: 3 NC (power) hidden, 6 B hidden
text: Розетка на шлейф

## HOUSING_JST
designator W?, comment EHR-3  (mechanical)
EHR-3  header for JST connector EH series; Value: EHR-3
pins: 3 NC (power) hidden, 6 B hidden
text: JST; housing

## HOUSING_MICROFIT
designator W?, comment 43025-0800  (mechanical)
EHR-3  header for JST connector EH series; Value: 43025-0800
pins: 3 NC (power) hidden, 6 B hidden
text: MicroFit; housing

## HOUSING_MICROFIT_12
designator W?, comment 43025-1200  (mechanical)
CONTACTs for JST connector EH series; Value: 43025-1200
pins: 3 NC (power) hidden, 6 B hidden
text: MicroFit; contact

## HOUSING_MOLEX_34691-9200
designator W?, comment 34729-0200 Molex  (mechanical)
EHR-3  header for JST connector EH series; Value: 34729-0200 Molex
pins: 3 NC (power) hidden, 6 B hidden
text: housing for; MOLEX_34691-9200

## HOUSING_MOLEX_34696-9100
designator W?, comment 313721000 Molex  (mechanical)
EHR-3  header for JST connector EH series; Value: 313721000 Molex
pins: 3 NC (power) hidden, 6 B hidden
text: housing for; MOLEX_34696-9100

## HOUSING_Terminal
designator W?, comment EHR-3  (mechanical)
EHR-3  header for JST connector EH series; Value: EHR-3
pins: 3 NC (power) hidden, 6 B hidden
text: Housing and; Terminals

## ICS874001
designator DD?
ICS874001 PCI EXPRESS JITTER ATTENUATOR; Value: ICS874001
pins: 1 PLL_SEL, 2 NC1, 3 NC2, 4 NC3, 5 MR, 6 BW_SEL, 7 F_SEL1, 8 VDDA, 9 F_SEL0, 10 VDD, 11 OE, 12 CLK, 13 NCLK, 14 GND, 15 NC4, 16 NC5, 17 NQ, 18 Q, 19 VDDO, 20 NC6

## IM03TS
designator K?
PCB DECAL: IM03TS
footprint IM03TS
pins: 1, 2, 3, 4, 5, 6, 7, 8

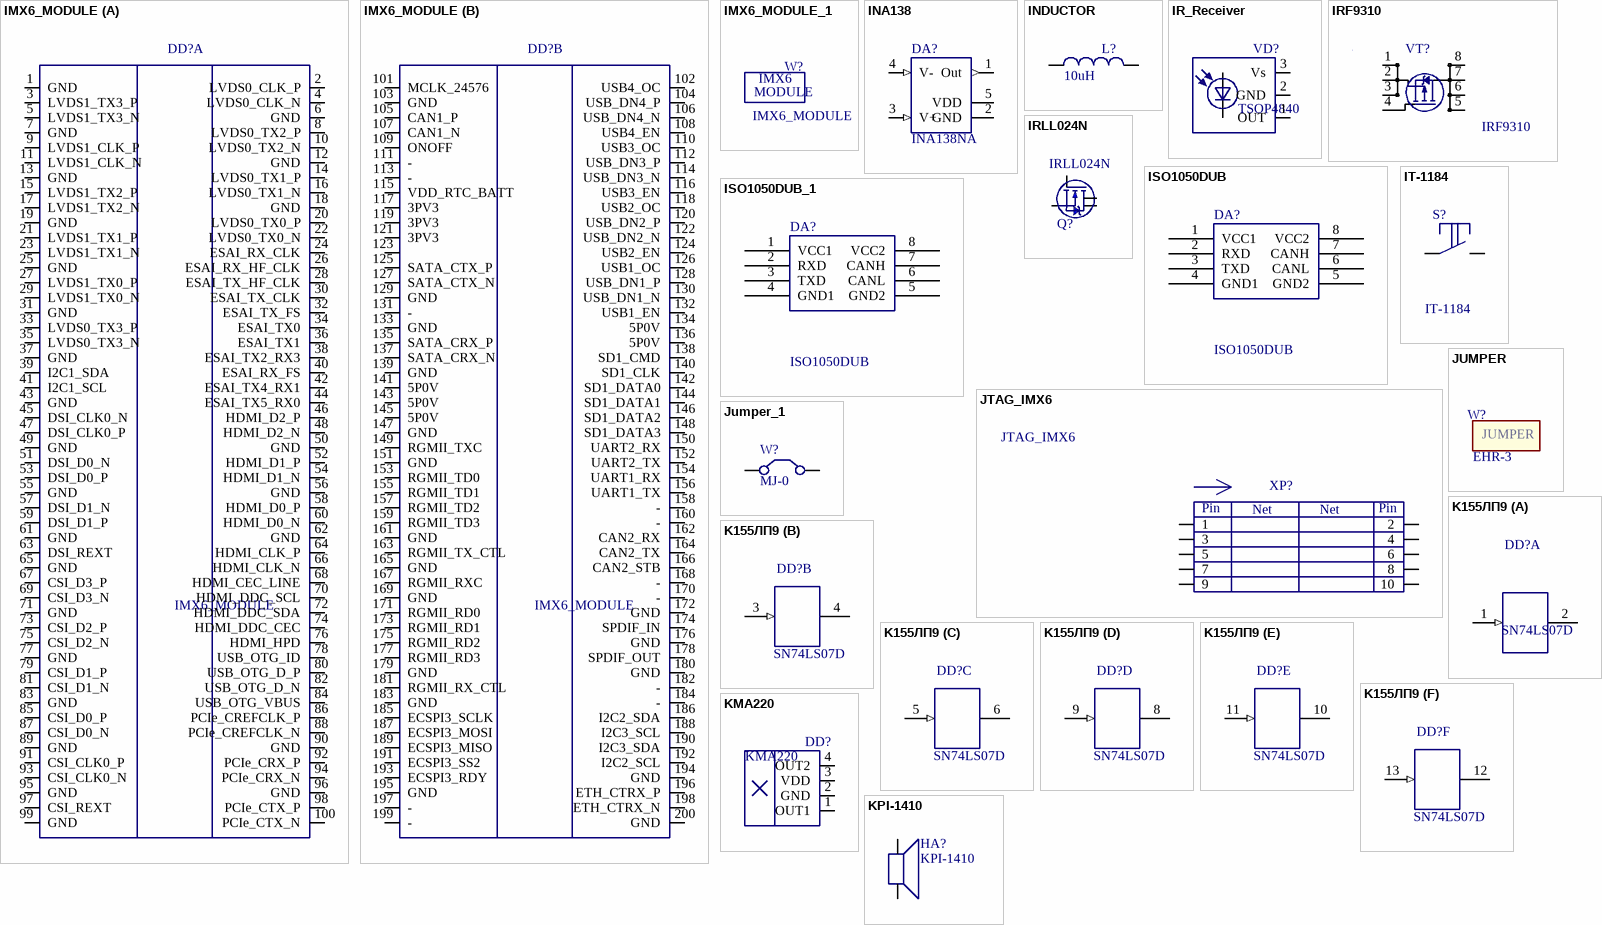
[diagram p18: symbols IMX6_MODULE to KPI-1410]

## IMX6_MODULE
designator DD?
процессорный модуль IMX6 в сборе; Value: IMX6_MODULE
part A pins: 1 GND, 2 LVDS0_CLK_P, 3 LVDS1_TX3_P, 4 LVDS0_CLK_N, 5 LVDS1_TX3_N, 6 GND, 7 GND, 8 LVDS0_TX2_P, 9 LVDS1_CLK_P, 10 LVDS0_TX2_N, 11 LVDS1_CLK_N, 12 GND, 13 GND, 14 LVDS0_TX1_P, 15 LVDS1_TX2_P, 16 LVDS0_TX1_N, 17 LVDS1_TX2_N, 18 GND, 19 GND, 20 LVDS0_TX0_P, 21 LVDS1_TX1_P, 22 LVDS0_TX0_N, 23 LVDS1_TX1_N, 24 ESAI_RX_CLK, 25 GND, 26 ESAI_RX_HF_CLK, 27 LVDS1_TX0_P, 28 ESAI_TX_HF_CLK, 29 LVDS1_TX0_N, 30 ESAI_TX_CLK, 31 GND, 32 ESAI_TX_FS, 33 LVDS0_TX3_P, 34 ESAI_TX0, 35 LVDS0_TX3_N, 36 ESAI_TX1, 37 GND, 38 ESAI_TX2_RX3, 39 I2C1_SDA, 40 ESAI_RX_FS, 41 I2C1_SCL, 42 ESAI_TX4_RX1, 43 GND, 44 ESAI_TX5_RX0, 45 DSI_CLK0_N, 46 HDMI_D2_P, 47 DSI_CLK0_P, 48 HDMI_D2_N, 49 GND, 50 GND, 51 DSI_D0_N, 52 HDMI_D1_P, 53 DSI_D0_P, 54 HDMI_D1_N, 55 GND, 56 GND, 57 DSI_D1_N, 58 HDMI_D0_P, 59 DSI_D1_P, 60 HDMI_D0_N, 61 GND, 62 GND, 63 DSI_REXT, 64 HDMI_CLK_P, 65 GND, 66 HDMI_CLK_N, 67 CSI_D3_P, 68 HDMI_CEC_LINE, 69 CSI_D3_N, 70 HDMI_DDC_SCL, 71 GND, 72 HDMI_DDC_SDA, 73 CSI_D2_P, 74 HDMI_DDC_CEC, 75 CSI_D2_N, 76 HDMI_HPD, 77 GND, 78 USB_OTG_ID, 79 CSI_D1_P, 80 USB_OTG_D_P, 81 CSI_D1_N, 82 USB_OTG_D_N, 83 GND, 84 USB_OTG_VBUS, 85 CSI_D0_P, 86 PCIe_CREFCLK_P, 87 CSI_D0_N, 88 PCIe_CREFCLK_N, 89 GND, 90 GND, 91 CSI_CLK0_P, 92 PCIe_CRX_P, 93 CSI_CLK0_N, 94 PCIe_CRX_N, 95 GND, 96 GND, 97 CSI_REXT, 98 PCIe_CTX_P, 99 GND, 100 PCIe_CTX_N
part B pins: 101 MCLK_24576, 102 USB4_OC, 103 GND, 104 USB_DN4_P, 105 CAN1_P, 106 USB_DN4_N, 107 CAN1_N, 108 USB4_EN, 109 ONOFF, 110 USB3_OC, 111 -, 112 USB_DN3_P, 113 -, 114 USB_DN3_N, 115 VDD_RTC_BATT, 116 USB3_EN, 117 3PV3, 118 USB2_OC, 119 3PV3, 120 USB_DN2_P, 121 3PV3, 122 USB_DN2_N, 123  , 124 USB2_EN, 125 SATA_CTX_P, 126 USB1_OC, 127 SATA_CTX_N, 128 USB_DN1_P, 129 GND, 130 USB_DN1_N, 131 -, 132 USB1_EN, 133 GND, 134 5P0V, 135 SATA_CRX_P, 136 5P0V, 137 SATA_CRX_N, 138 SD1_CMD, 139 GND, 140 SD1_CLK, 141 5P0V, 142 SD1_DATA0, 143 5P0V, 144 SD1_DATA1, 145 5P0V, 146 SD1_DATA2, 147 GND, 148 SD1_DATA3, 149 RGMII_TXC, 150 UART2_RX, 151 GND, 152 UART2_TX, 153 RGMII_TD0, 154 UART1_RX, 155 RGMII_TD1, 156 UART1_TX, 157 RGMII_TD2, 158 -, 159 RGMII_TD3, 160 -, 161 GND, 162 CAN2_RX, 163 RGMII_TX_CTL, 164 CAN2_TX, 165 GND, 166 CAN2_STB, 167 RGMII_RXC, 168 -, 169 GND, 170 -, 171 RGMII_RD0, 172 GND, 173 RGMII_RD1, 174 SPDIF_IN, 175 RGMII_RD2, 176 GND, 177 RGMII_RD3, 178 SPDIF_OUT, 179 GND, 180 GND, 181 RGMII_RX_CTL, 182 -, 183 GND, 184 -, 185 ECSPI3_SCLK, 186 I2C2_SDA, 187 ECSPI3_MOSI, 188 I2C3_SCL, 189 ECSPI3_MISO, 190 I2C3_SDA, 191 ECSPI3_SS2, 192 I2C2_SCL, 193 ECSPI3_RDY, 194 GND, 195 GND, 196 ETH_CTRX_P, 197 -, 198 ETH_CTRX_N, 199 -, 200 GND

## IMX6_MODULE_1
designator W?, comment IMX6_MODULE  (mechanical)
Value: IMX6_MODULE
pins: 3 NC (power) hidden, 6 B hidden
text: IMX6; MODULE

## INA138
designator DA?, comment INA138NA
Микросхема; Value: INA138NA
pins: 1 Out (out), 2 GND (power), 3 V+ (in), 4 V- (in), 5 VDD (power)

## INDUCTOR
designator L?, comment 10uH
Индуктивность; Value: 10uH
pins: 1, 2

## IR_Receiver
designator VD?, comment TSOP4840
IR_Receiver; Value: TSOP4840
pins: 1 OUT, 2 GND, 3 Vs, A, C

## IRF9310
designator VT?
Value: IRF9310
footprint SOIC8-150_N (SOIC, 8-Leads, Body 4.9x3.8mm, Pitch 1.27mm, IPC Medium Density)
pins: 1 S, 2 S, 3 S, 4 G, 5 D, 6 D, 7 D, 8 D

## IRLL024N
designator Q?
Транзистор N-channel MOSFET; Value: IRLL024N
pins: 1 G, 2 D, 3 S, 4 D

## ISO1050DUB
designator DA?
м/сх; Value: ISO1050DUB
pins: 1 VCC1 (power), 2 RXD, 3 TXD, 4 GND1 (power), 5 GND2 (power), 6 CANL, 7 CANH, 8 VCC2 (power)

## ISO1050DUB_1
designator DA?, comment ISO1050DUB
м/сх; Value: ISO1050DUB
pins: 1 VCC1 (power), 2 RXD, 3 TXD, 4 GND1 (power), 5 GND2 (power), 6 CANL, 7 CANH, 8 VCC2 (power)

## IT-1184
designator S?
Кнопка тактовая; Value: IT-1184
pins: 1, 2

## JTAG_IMX6
designator XP?
JTAG_IMX6 - 10pin; Value: JTAG_IMX6
pins: 1, 2, 3, 4, 5, 6, 7, 8, 9, 10
text: Net; Pin

## JUMPER
designator W?, comment EHR-3  (mechanical)
JUMPER; Value: EHR-3
pins: 3 NC (power) hidden, 6 B hidden

## Jumper_1
designator W?, comment MJ-0  (mechanical)
Джампер; Value: MJ-0
pins: 1 C1, 2 C2

## K155ЛП9
designator DD?, comment SN74LS07D
Микросхема; Value: SN74LS07D
part A pins: 1 (in), 2 (oc), 7 GND (power) hidden to GND, 14 VCC (power) hidden to VCC
part B pins: 3 (in), 4 (oc)
part C pins: 5 (in), 6 (oc)
part D pins: 8 (oc), 9 (in)
part E pins: 10 (oc), 11 (in)
part F pins: 12 (oc), 13 (in)

## KMA220
designator DD?
Dual channel programmable angle sensor; Value: KMA220
pins: 1 OUT1 (power), 2 GND (power), 3 VDD (power), 4 OUT2 (power)

## KPI-1410
designator HA?
Пьезоизлучатель; Value: KPI-1410
pins: 1, 2

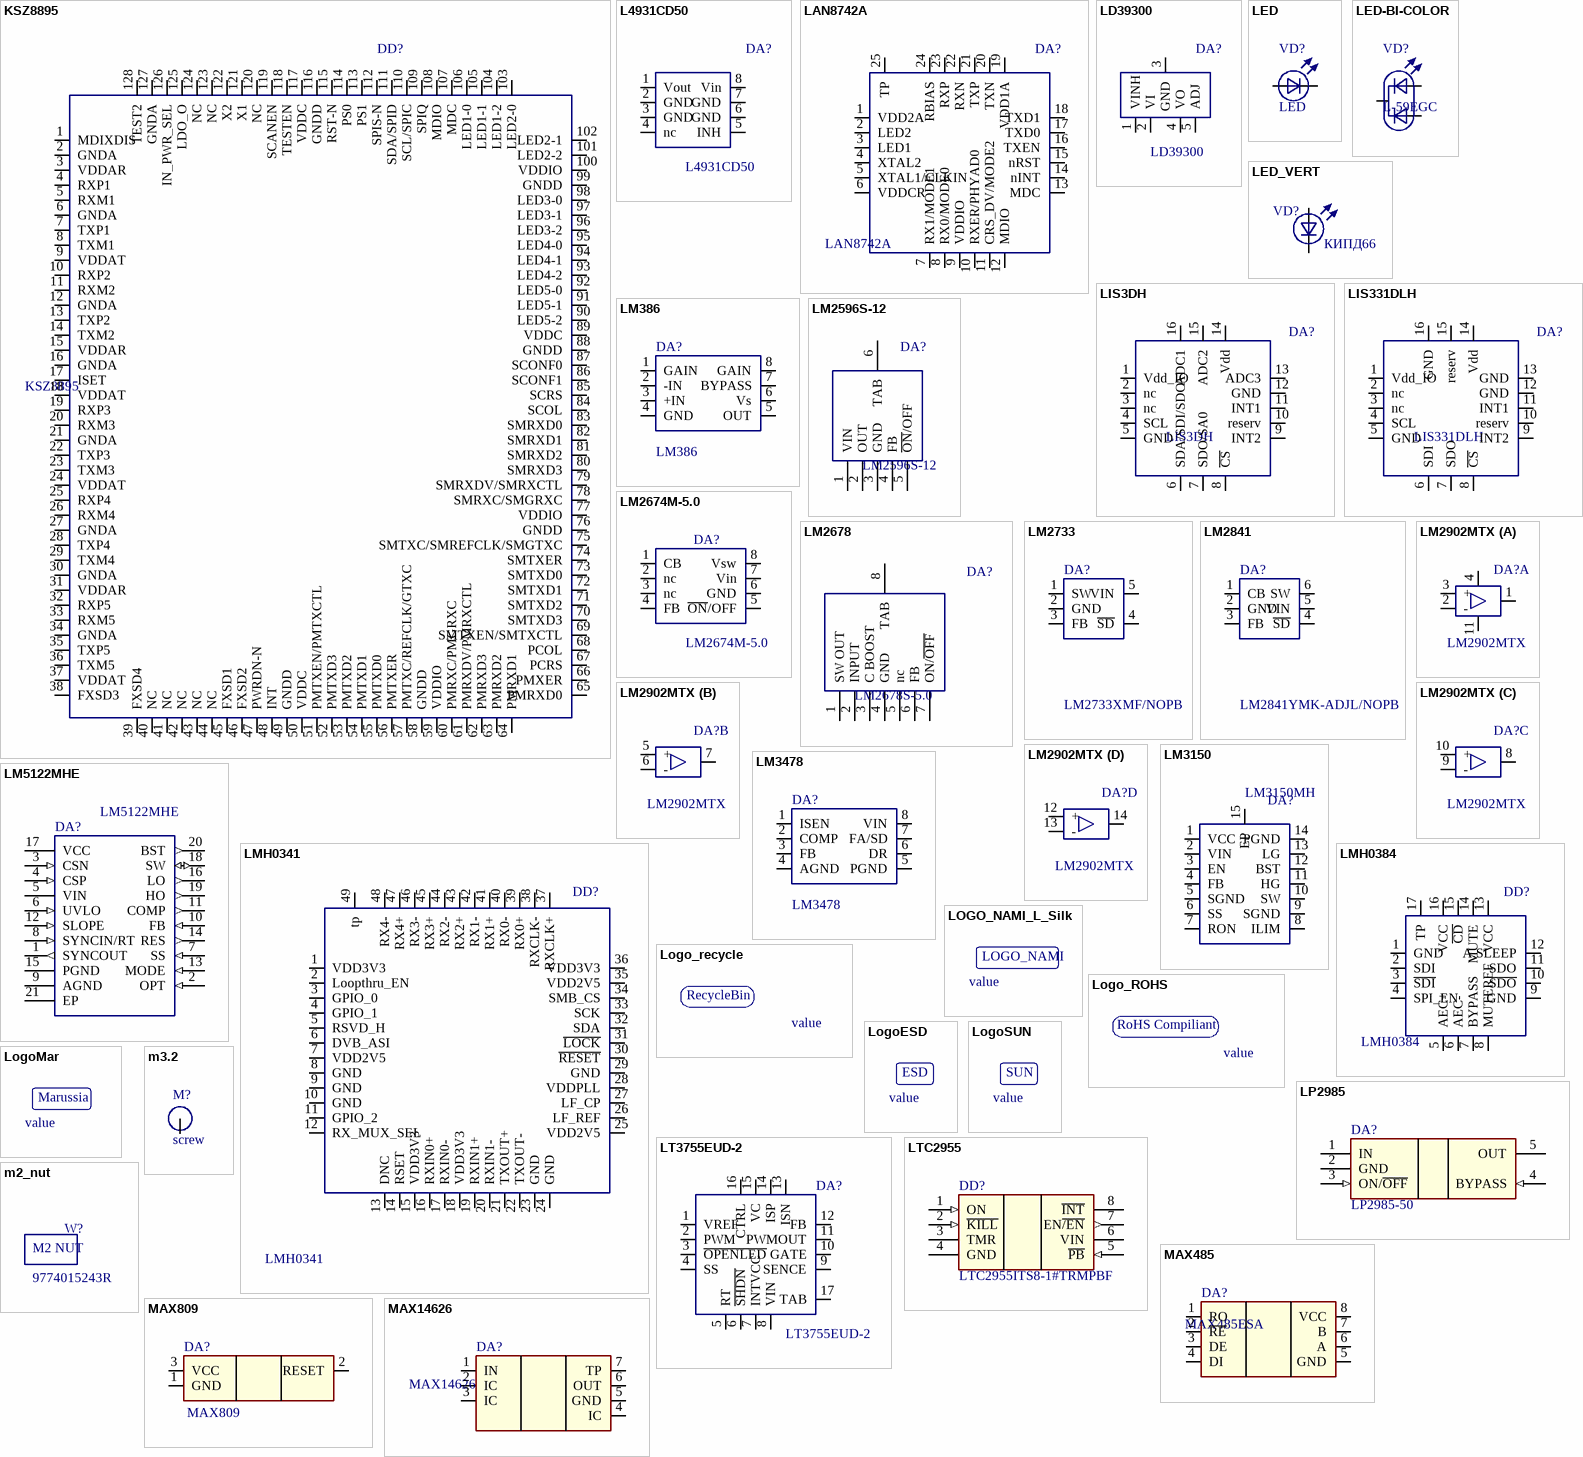
[diagram p19: symbols KSZ8895 to MAX14626]

## KSZ8895
designator DD?
Integrated-5-Port-10-100-Managed-Ethernet-Switch; Value: KSZ8895
pins: 1 MDIXDIS, 2 GNDA, 3 VDDAR, 4 RXP1, 5 RXM1, 6 GNDA, 7 TXP1, 8 TXM1, 9 VDDAT, 10 RXP2, 11 RXM2 (power), 12 GNDA (power), 13 TXP2, 14 TXM2, 15 VDDAR, 16 GNDA, 17 ISET, 18 VDDAT, 19 RXP3, 20 RXM3, 21 GNDA, 22 TXP3, 23 TXM3, 24 VDDAT, 25 RXP4 (power), 26 RXM4 (power), 27 GNDA, 28 TXP4, 29 TXM4, 30 GNDA, 31 VDDAR (power), 32 RXP5 (power), 33 RXM5, 34 GNDA, 35 TXP5, 36 TXM5, 37 VDDAT, 38 FXSD3, 39 FXSD4 (power), 40 NC (power), 41 NC, 42 NC, 43 NC, 44 NC, 45 FXSD1, 46 FXSD2 (power), 47 PWRDN-N (power), 48 INT, 49 GNDD, 50 VDDC, 51 PMTXEN/PMTXCTL (power), 52 PMTXD3 (power), 53 PMTXD2, 54 PMTXD1, 55 PMTXD0, 56 PMTXER (power), 57 PMTXC/REFCLK/GTXC (power), 58 GNDD (power), 59 VDDIO (power), 60 PMRXC/PMGRXC, 61 PMRXDV/PMRXCTL, 62 PMRXD3, 63 PMRXD2, 64 PMRXD1, 65 PMRXD0, 66 PMXER, 67 PCRS, 68 PCOL, 69 SMTXEN/SMTXCTL, 70 SMTXD3, 71 SMTXD2, 72 SMTXD1, 73 SMTXD0, 74 SMTXER, 75 SMTXC/SMREFCLK/SMGTXC, 76 GNDD, 77 VDDIO, 78 SMRXC/SMGRXC, 79 SMRXDV/SMRXCTL, 80 SMRXD3, 81 SMRXD2, 82 SMRXD1, 83 SMRXD0, 84 SCOL, 85 SCRS, 86 SCONF1, 87 SCONF0, 88 GNDD, 89 VDDC, 90 LED5-2, 91 LED5-1, 92 LED5-0, 93 LED4-2, 94 LED4-1, 95 LED4-0, 96 LED3-2, 97 LED3-1, 98 LED3-0, 99 GNDD, 100 VDDIO, 101 LED2-2, 102 LED2-1, 103 LED2-0, 104 LED1-2, 105 LED1-1, 106 LED1-0, 107 MDC, 108 MDIO, 109 SPIQ, 110 SCL/SPIC, 111 SDA/SPID, 112 SPIS-N, 113 PS1, 114 PS0, 115 RST-N, 116 GNDD, 117 VDDC, 118 TESTEN, 119 SCANEN, 120 NC, 121 X1, 122 X2, 123 NC, 124 NC, 125 LDO_O, 126 IN_PWR_SEL, 127 GNDA, 128 TEST2

## L4931CD50
designator DA?
Very low drop voltage regulators with inhibit; Value: L4931CD50
pins: 1 Vout (power), 2 GND (power), 3 GND (power), 4 nc, 5 INH, 6 GND (power), 7 GND (power), 8 Vin (power)

## LAN8742A
designator DA?
LAN8742A Transceiver; 10/100Base-T; RMII; QFN24; 3,3В; Value: LAN8742A
pins: 1 VDD2A, 2 LED2, 3 LED1, 4 XTAL2, 5 XTAL1/CLKIN, 6 VDDCR, 7 RX1/MODE1, 8 RX0/MODE0, 9 VDDIO, 10 RXER/PHYAD0, 11 CRS_DV/MODE2, 12 MDIO, 13 MDC, 14 nINT, 15 nRST, 16 TXEN, 17 TXD0, 18 TXD1, 19 VDD1A, 20 TXN, 21 TXP, 22 RXN, 23 RXP, 24 RBIAS, 25 TP

## LD39300
designator DA?
Ultra low drop BICMOS voltage regulator 3A; Value: LD39300
pins: 1 VINH (power), 2 VI (power), 3 GND (power), 4 VO, 5 ADJ

## LED
designator VD?
Светодиод; Value: LED
pins: 1 C, 2 A

## LED-BI-COLOR
designator VD?, comment L-59EGC
Светодиод; Value: L-59EGC
pins: AG, AR, C

## LED_VERT
designator VD?, comment КИПД66
Светодиод; Value: КИПД66
pins: 1 C, 2 A

## LIS3DH
designator DA?
м/сх; Value: LIS3DH
pins: 1 Vdd_IO (power), 2 nc, 3 nc, 4 SCL (power), 5 GND (power), 6 SDA/SDI/SDO, 7 SDO/SA0, 8 ~{CS} (power), 9 INT2 (power), 10 reserv (power), 11 INT1 (power), 12 GND (power), 13 ADC3 (power), 14 Vdd (power), 15 ADC2 (power), 16 ADC1 (power)

## LIS331DLH
designator DA?
м/сх; Value: LIS331DLH
footprint LGA16 (LGA, 14-Leads, Body 3x3x1mm, Pitch 0.5mm)
pins: 1 Vdd_IO (power), 2 nc, 3 nc, 4 SCL (power), 5 GND (power), 6 SDI, 7 SDO, 8 ~{CS} (power), 9 INT2 (power), 10 reserv (power), 11 INT1 (power), 12 GND (power), 13 GND (power), 14 Vdd (power), 15 reserv (power), 16 GND (power)

## LM386
designator DA?
Value: LM386
pins: 1 GAIN (power), 2 -IN, 3 +IN, 4 GND (power), 5 OUT (power), 6 Vs, 7 BYPASS, 8 GAIN (power)

## LM2596S-12
designator DA?
SIMPLE SWITCHER; 3A Step-Down Voltage Regulator; Value: LM2596S-12
pins: 1 VIN, 2 OUT, 3 GND, 4 FB, 5 ~{ON}/OFF, 6 TAB

## LM2674M-5.0
designator DA?
SIMPLE SWITCHER; 3A Step-Down Voltage Regulator; Value: LM2674M-5.0
pins: 1 CB (power), 2 nc (power), 3 nc (power), 4 FB, 5 ~{ON}/OFF, 6 GND (power), 7 Vin (power), 8 Vsw (power)

## LM2678
designator DA?, comment LM2678S-5.0
SIMPLE SWITCHER; 3A Step-Down Voltage Regulator; Value: LM2678S-5.0
pins: 1 SW OUT (power), 2 INPUT (power), 3 C BOOST (power), 4 GND, 5 nc, 6 FB (power), 7 ON/~{OFF} (power), 8 TAB (power)

## LM2733
designator DA?, comment LM2733XMF/NOPB
LM2733 0.6 and 1.6-MHz Boost Converters; Value: LM2733XMF/NOPB
pins: 1 SW (power), 2 GND, 3 FB, 4 ~{SD} (power), 5 VIN (power)

## LM2841
designator DA?, comment LM2841YMK-ADJL/NOPB
LM284x 4.5-V to 42-V Input, 0.1-, 0.3-, or0.6-A OutputStep-DownDC/DCRegulatorin Thin SOT; Value: LM2841YMK-ADJL/NOPB
pins: 1 CB (power), 2 GND, 3 FB, 4 ~{SD} (power), 5 VIN (power), 6 SW (power)

## LM2902MTX
designator DA?
Микросхема LM2902MTX Texas Instr.; Value: LM2902MTX
part A pins: 1 ~{Y}, 2 -, 3 +, 4 VCC, 11 GND
part B pins: 5 +, 6 -, 7 out
part C pins: 8 out, 9 -, 10 +
part D pins: 12 +, 13 -, 14 out

## LM3150
designator DA?, comment LM3150MH
LM3150Wide-VINSynchronousBuck Controller; Value: LM3150MH
pins: 1 VCC, 2 VIN, 3 EN, 4 FB (power), 5 SGND (power), 6 SS (power), 7 RON (power), 8 ILIM, 9 SGND (power), 10 SW (power), 11 HG (power), 12 BST (power), 13 LG (power), 14 PGND, 15 EP

## LM3478
designator DA?
LM3478 High-Efficiency Low-Side N-Channel Controller for Switching Regulator; Value: LM3478
pins: 1 ISEN (power), 2 COMP, 3 FB, 4 AGND (power), 5 PGND (power), 6 DR, 7 FA/SD, 8 VIN (power)

## LM5122MHE
designator DA?
LM5122 Wide-Input Synchronous Boost Controller With Multiple Phase Capability; Value: LM5122MHE
pins: 1 SYNCOUT (out), 2 OPT (in), 3 CSN (in), 4 CSP (in), 5 VIN (power), 6 UVLO (in), 7 SS (in), 8 SYNCIN/RT (in), 9 AGND (power), 10 FB (in), 11 COMP (out), 12 SLOPE (in), 13 MODE (in), 14 RES (out), 15 PGND (power), 16 LO (out), 17 VCC (power), 18 SW (io), 19 HO (out), 20 BST (out), 21 EP

## LMH0341
designator DD?
HDMI to FPD-Link III Bridge Serializer; Value: LMH0341
pins: 1 VDD3V3, 2 Loopthru_EN, 3 GPIO_0, 4 GPIO_1, 5 RSVD_H, 6 DVB_ASI, 7 VDD2V5, 8 GND, 9 GND, 10 GND, 11 GPIO_2, 12 RX_MUX_SEL, 13 DNC, 14 RSET, 15 VDD3V3, 16 RXIN0+, 17 RXIN0-, 18 VDD3V3, 19 RXIN1+, 20 RXIN1-, 21 TXOUT+, 22 TXOUT-, 23 GND, 24 GND, 25 VDD2V5, 26 LF_REF, 27 LF_CP, 28 VDDPLL, 29 GND, 30 ~{RESET}, 31 ~{LOCK}, 32 SDA, 33 SCK, 34 SMB_CS, 35 VDD2V5, 36 VDD3V3, 37 RXCLK+, 38 RXCLK-, 39 RX0+, 40 RX0-, 41 RX1+, 42 RX1-, 43 RX2+, 44 RX2-, 45 RX3+, 46 RX3-, 47 RX4+, 48 RX4-, 49 tp

## LMH0384
designator DD?
Value: LMH0384
pins: 1 GND, 2 SDI, 3 ~{SDI}, 4 SPI_EN, 5 AEC+, 6 AEC-, 7 BYPASS, 8 MUTEREF, 9 GND, 10 ~{SDO}, 11 SDO, 12 A.SLEEP, 13 VCC, 14 MUTE, 15 ~{CD}, 16 VCC, 17 TP

## LOGO_NAMI_L_Silk
designator *, comment value  (no BOM)
Value: value
text: LOGO_NAMI

## Logo_recycle
designator *, comment value  (no BOM)
Value: value
text: RecycleBin

## Logo_ROHS
designator *, comment value  (no BOM)
Value: value
text: RoHS Compiliant

## LogoESD
designator *, comment value  (no BOM)
Value: value
text: ESD

## LogoMar
designator *, comment value  (no BOM)
Value: value
text: Marussia

## LogoSUN
designator *, comment value  (no BOM)
Value: value
text: SUN

## LP2985
designator DA?, comment LP2985-50
м/сх; Value: LP2985-50
pins: 1 IN (power), 2 GND (power), 3 NC (power) hidden, 3 ON/~{O}~{FF} (in), 4 BYPASS (in), 5 OUT (power), 6 B hidden

## LT3755EUD-2
designator DA?
40VIN, 75VOUT LED Controllers; Value: LT3755EUD-2
pins: 1 VREF (power), 2 PWM (power), 3 ~{OPENLED} (power), 4 SS, 5 RT, 6 ~{SHDN} (power), 7 INTVCC (power), 8 VIN (power), 9 SENCE (power), 10 GATE (power), 11 PWMOUT (power), 12 FB (power), 13 ISN (power), 14 ISP (power), 15 VC (power), 16 CTRL (power), 17 TAB (power)

## LTC2955
designator DD?, comment LTC2955ITS8-1#TRMPBF
No Description Available
footprint TSOT-23_TS8_LIT
pins: 1 ON (in), 2 ~{KILL} (in), 3 TMR, 4 GND (power), 5 ~{PB} (in), 6 VIN (power), 7 EN~{/EN} (out), 8 ~{INT} (oc)

## m2_nut
designator W?, comment 9774015243R  (mechanical)
WA-SMSI SMT Steel Spacer, M2 Thread 9774015243R; Value: 9774015243R
pins: 3 NC (power) hidden, 6 B hidden
text: M2 NUT

## m3.2
designator M?, comment screw  (no BOM)
footprint M3.2 (m3.2)
pins: 1

## MAX485
designator DA?, comment MAX485ESA
RS-485/RS-422 Transceivers; Value: MAX485ESA
pins: 1 RO, 2 ~{RE}, 3 DE, 4 DI, 5 GND, 6 A, 7 B, 8 VCC

## MAX809
designator DA?
супервизор; Value: MAX809
pins: 1 GND, 2 RESET, 3 VCC

## MAX14626
designator DA?
4–20mA  Current Loop Protector; Value: MAX14626
pins: 1 IN (power), 2 IC, 3 IC, 4 IC, 5 GND, 6 OUT, 7 TP

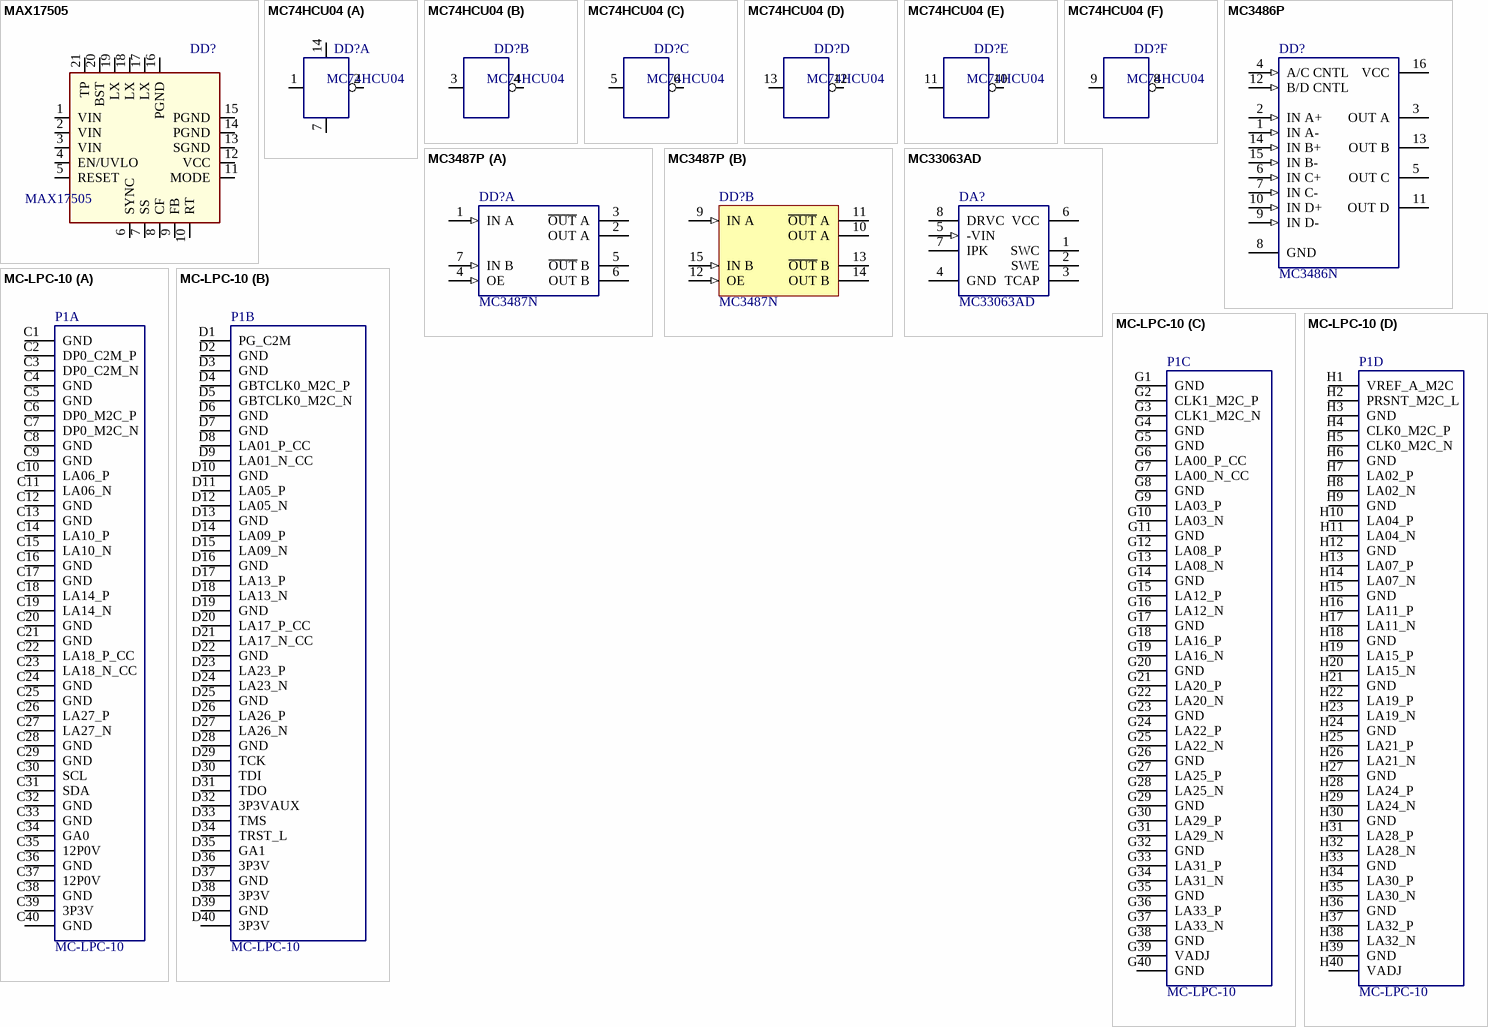
[diagram p20: symbols MAX17505 to MC-LPC-10]

## MAX17505
designator DD?
Value: MAX17505
footprint TQFN20 (20-Pin Plastic Quad 4x4 Flat No-Lead 0.5 mm Pitch, IPC Low Density)
pins: 1 VIN, 2 VIN, 3 VIN, 4 EN/UVLO, 5 RESET, 6 SYNC, 7 SS, 8 CF, 9 FB, 10 RT, 11 MODE, 12 VCC, 13 SGND, 14 PGND, 15 PGND, 16 PGND, 17 LX, 18 LX, 19 LX, 20 BST, 21 TP

## MC74HCU04
designator DD?
Hex Inverter; Value: MC74HCU04
part A pins: 1 A, 2 ~{O}, 7 GND, 14 VCC
part B pins: 3 A, 4 ~{O}
part C pins: 5 A, 6 ~{O}
part D pins: 12 ~{O}, 13 A
part E pins: 10 ~{O}, 11 A
part F pins: 8 ~{O}, 9 A

## MC3486P
designator DD?, comment MC3486N
Микросхема; Value: MC3486N
pins: 1 IN A- (in), 2 IN A+ (in), 3 OUT A (hiz), 4 A/C CNTL (in), 5 OUT C (hiz), 6 IN C+ (in), 7 IN C- (in), 8 GND (power), 9 IN D- (in), 10 IN D+ (in), 11 OUT D (hiz), 12 B/D CNTL (in), 13 OUT B (hiz), 14 IN B+ (in), 15 IN B- (in), 16 VCC (power)

## MC3487P
designator DD?, comment MC3487N
Микросхема; Value: MC3487N
pins on every part: 8 GND (power) hidden to GND, 16 VDD (power) hidden to VDD
part A pins: 1 IN A (in), 2 OUT A (hiz), 3 ~{OUT} A (hiz), 4 OE (in), 5 ~{OUT} B (hiz), 6 OUT B (hiz), 7 IN B (in)
part B pins: 9 IN A (in), 10 OUT A (hiz), 11 ~{OUT} A (hiz), 12 OE (in), 13 ~{OUT} B (hiz), 14 OUT B (hiz), 15 IN B (in)

## MC33063AD
designator DA?
Микросхема; Value: MC33063AD
pins: 1 SWC (oc), 2 SWE (oe), 3 TCAP, 4 GND (power), 5 -VIN (in), 6 VCC (power), 7 IPK, 8 DRVC (oc)

## MC-LPC-10
designator P1
MC-LPC-10, FMC Low-pin count connector, lead free, 160 I/Os, male, 10 mm mated stack height; Manufacturer: Samtec; PartName: ASP-134604-01; Manufacturer Ref: SEAM-40-03.5-S-10-2-A-K-TR-VITA57; Pitch: 1.27 mm; Mated Stack Height: 10 mm; Solder Type: Lead-Free; Number I/O: 160; Part: ASP-134604-01; Vita PartNumber: MC-LPC-10; Pin Count: Low; Gender: male; Supplier 1: Digi-Key; Supplier Part Number 1: SAM8732-ND
footprint ASP-134604-01 (MC-LPC-10, 1.27mm PITCH TERMINAL ARRAY ASSEMBLY, MALE, VITA 57 CONNECTOR)
part A pins: C1 GND, C2 DP0_C2M_P, C3 DP0_C2M_N, C4 GND, C5 GND, C6 DP0_M2C_P, C7 DP0_M2C_N, C8 GND, C9 GND, C10 LA06_P, C11 LA06_N, C12 GND, C13 GND, C14 LA10_P, C15 LA10_N, C16 GND, C17 GND, C18 LA14_P, C19 LA14_N, C20 GND, C21 GND, C22 LA18_P_CC, C23 LA18_N_CC, C24 GND, C25 GND, C26 LA27_P, C27 LA27_N, C28 GND, C29 GND, C30 SCL, C31 SDA, C32 GND, C33 GND, C34 GA0, C35 12P0V, C36 GND, C37 12P0V, C38 GND, C39 3P3V, C40 GND
part B pins: D1 PG_C2M, D2 GND, D3 GND, D4 GBTCLK0_M2C_P, D5 GBTCLK0_M2C_N, D6 GND, D7 GND, D8 LA01_P_CC, D9 LA01_N_CC, D10 GND, D11 LA05_P, D12 LA05_N, D13 GND, D14 LA09_P, D15 LA09_N, D16 GND, D17 LA13_P, D18 LA13_N, D19 GND, D20 LA17_P_CC, D21 LA17_N_CC, D22 GND, D23 LA23_P, D24 LA23_N, D25 GND, D26 LA26_P, D27 LA26_N, D28 GND, D29 TCK, D30 TDI, D31 TDO, D32 3P3VAUX, D33 TMS, D34 TRST_L, D35 GA1, D36 3P3V, D37 GND, D38 3P3V, D39 GND, D40 3P3V
part C pins: G1 GND, G2 CLK1_M2C_P, G3 CLK1_M2C_N, G4 GND, G5 GND, G6 LA00_P_CC, G7 LA00_N_CC, G8 GND, G9 LA03_P, G10 LA03_N, G11 GND, G12 LA08_P, G13 LA08_N, G14 GND, G15 LA12_P, G16 LA12_N, G17 GND, G18 LA16_P, G19 LA16_N, G20 GND, G21 LA20_P, G22 LA20_N, G23 GND, G24 LA22_P, G25 LA22_N, G26 GND, G27 LA25_P, G28 LA25_N, G29 GND, G30 LA29_P, G31 LA29_N, G32 GND, G33 LA31_P, G34 LA31_N, G35 GND, G36 LA33_P, G37 LA33_N, G38 GND, G39 VADJ, G40 GND
part D pins: H1 VREF_A_M2C, H2 PRSNT_M2C_L, H3 GND, H4 CLK0_M2C_P, H5 CLK0_M2C_N, H6 GND, H7 LA02_P, H8 LA02_N, H9 GND, H10 LA04_P, H11 LA04_N, H12 GND, H13 LA07_P, H14 LA07_N, H15 GND, H16 LA11_P, H17 LA11_N, H18 GND, H19 LA15_P, H20 LA15_N, H21 GND, H22 LA19_P, H23 LA19_N, H24 GND, H25 LA21_P, H26 LA21_N, H27 GND, H28 LA24_P, H29 LA24_N, H30 GND, H31 LA28_P, H32 LA28_N, H33 GND, H34 LA30_P, H35 LA30_N, H36 GND, H37 LA32_P, H38 LA32_N, H39 GND, H40 VADJ

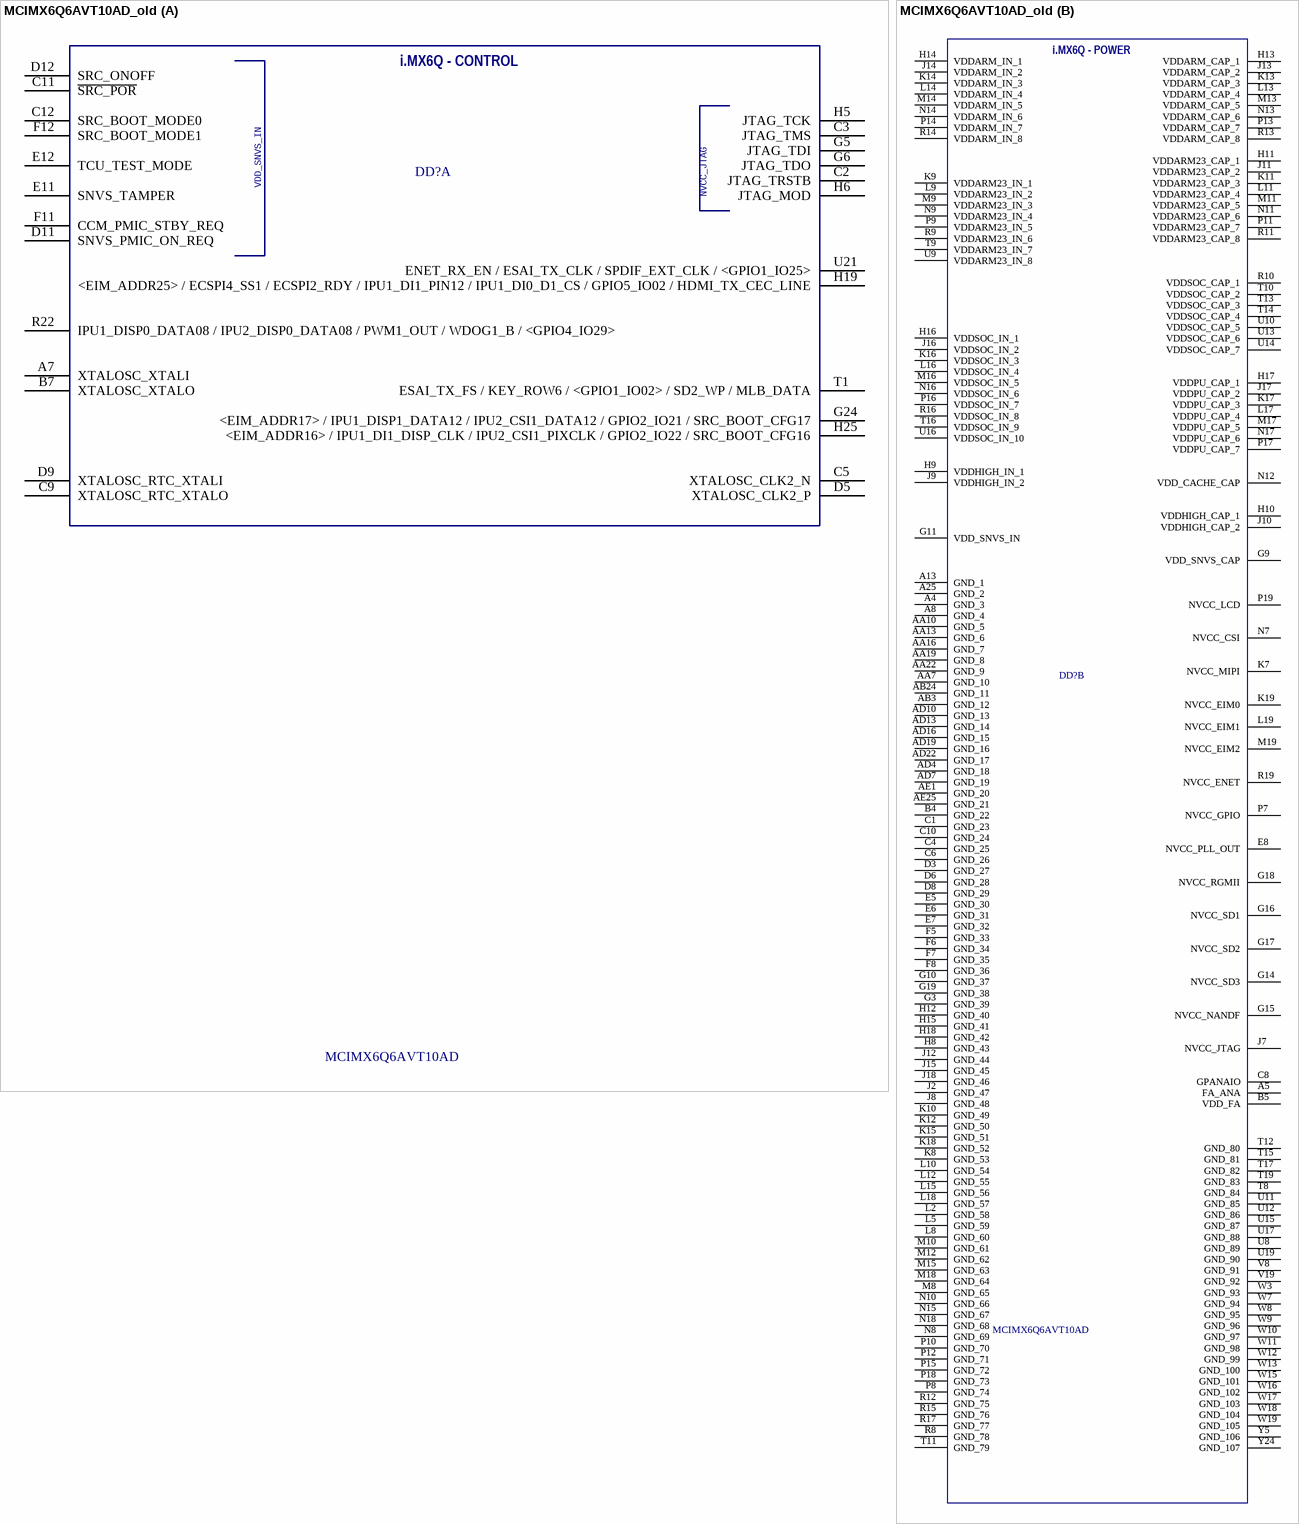
[diagram p21: symbol MCIMX6Q6AVT10AD_old]

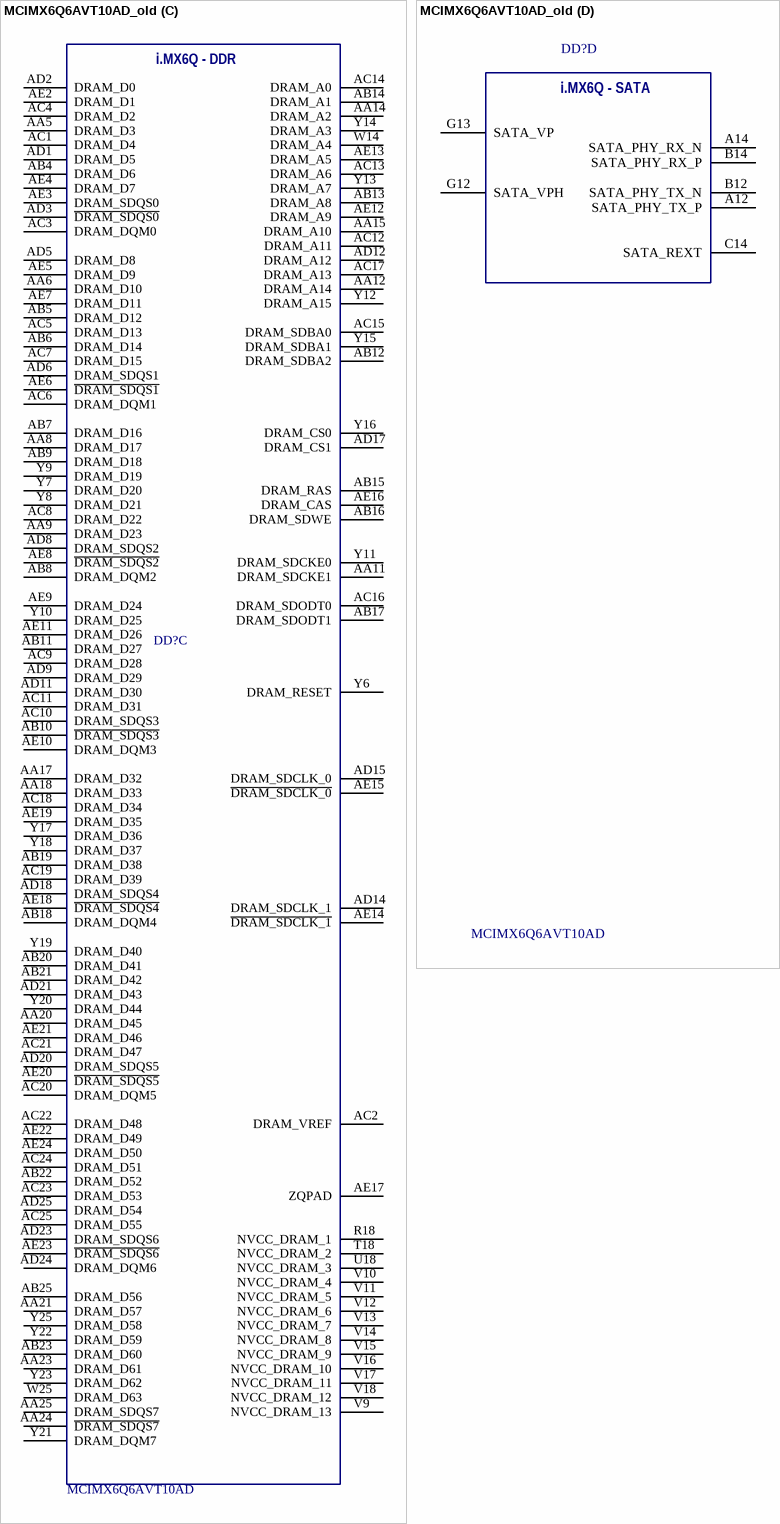
[diagram p22: symbol MCIMX6Q6AVT10AD_old]

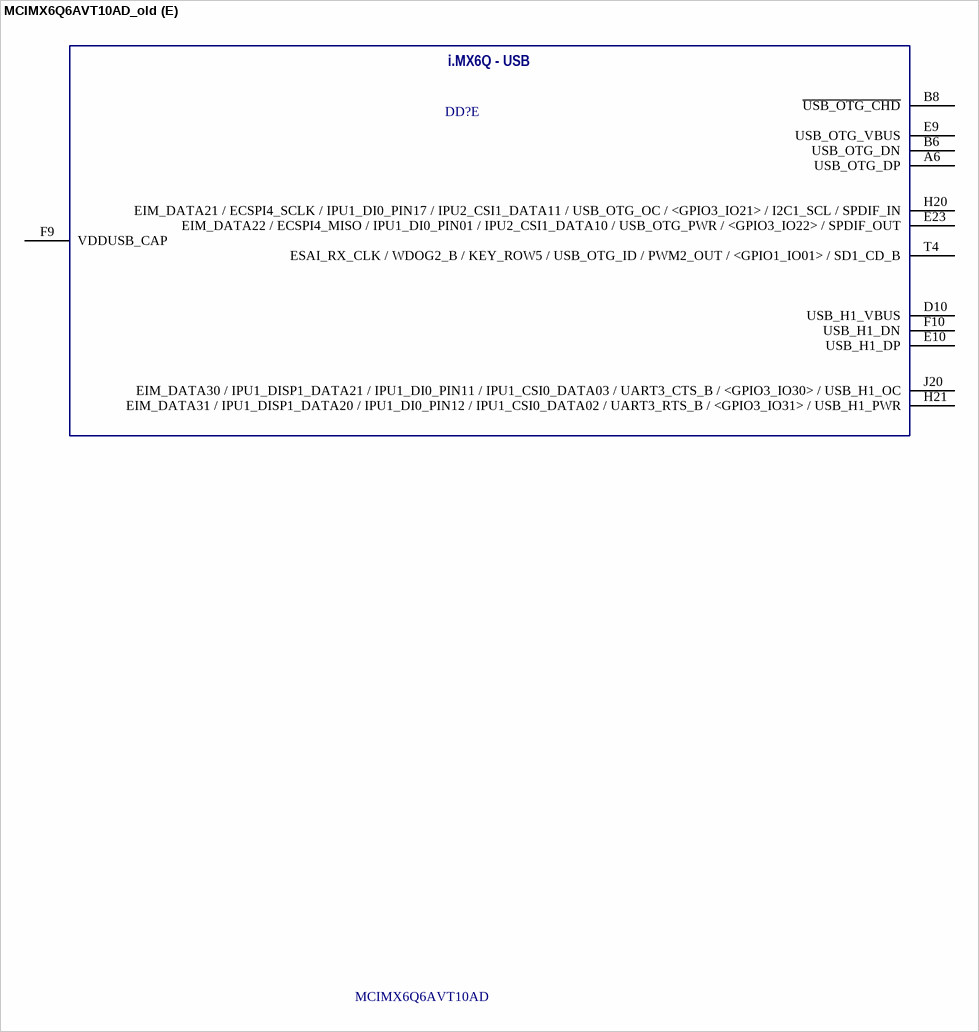
[diagram p23: symbol MCIMX6Q6AVT10AD_old]

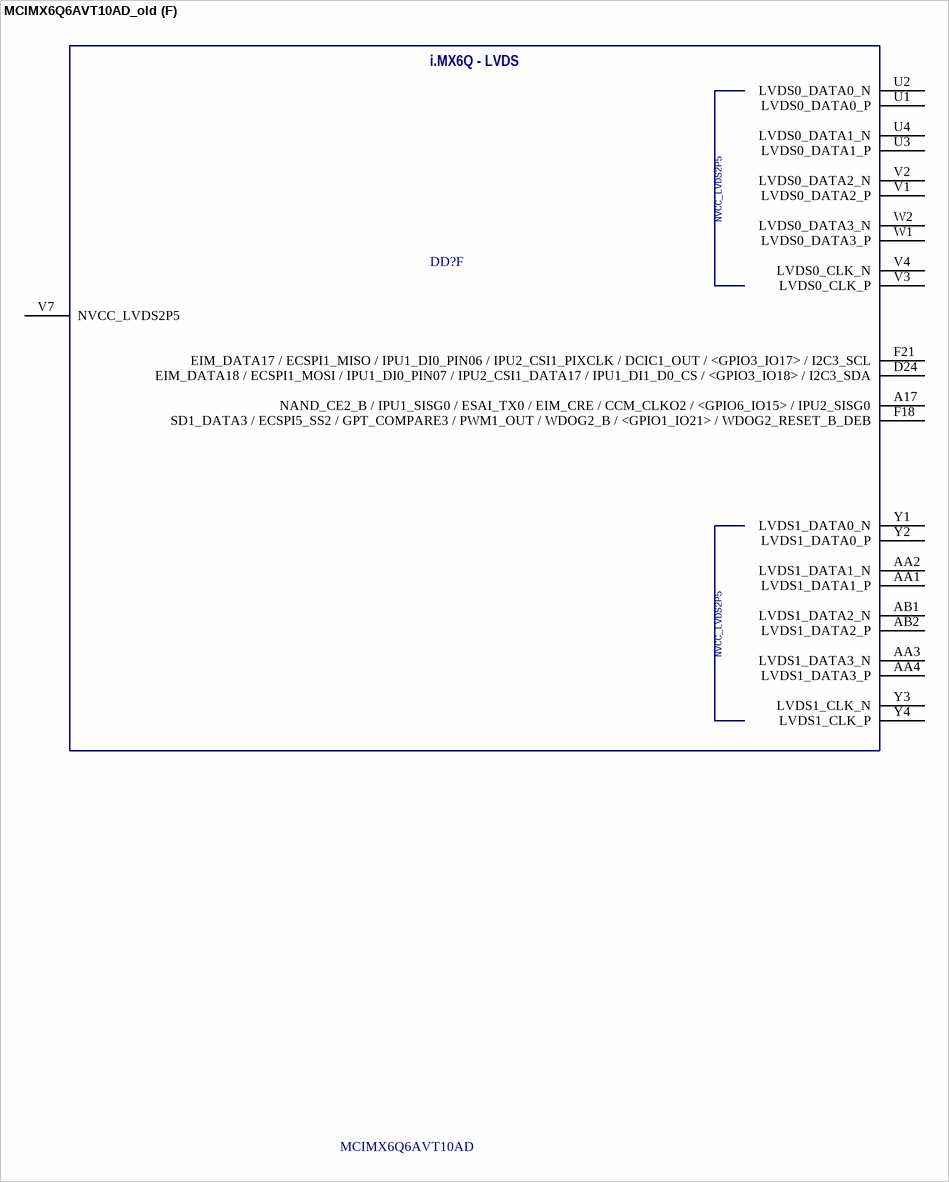
[diagram p24: symbol MCIMX6Q6AVT10AD_old]

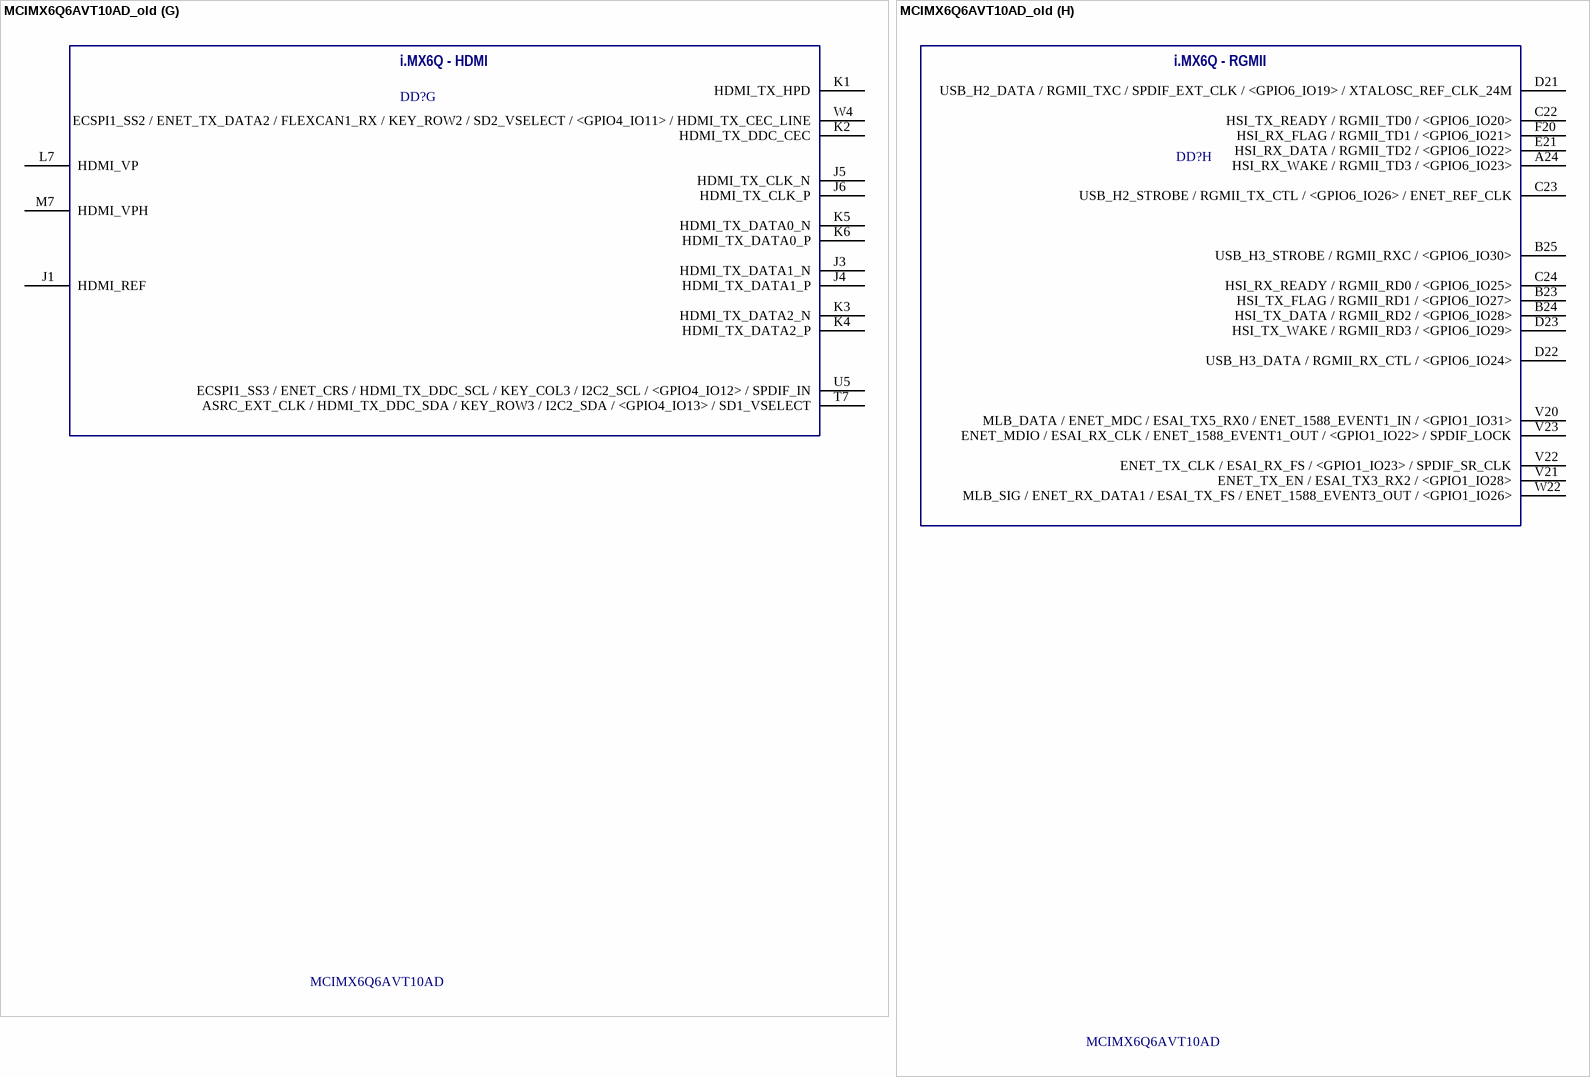
[diagram p25: symbol MCIMX6Q6AVT10AD_old]

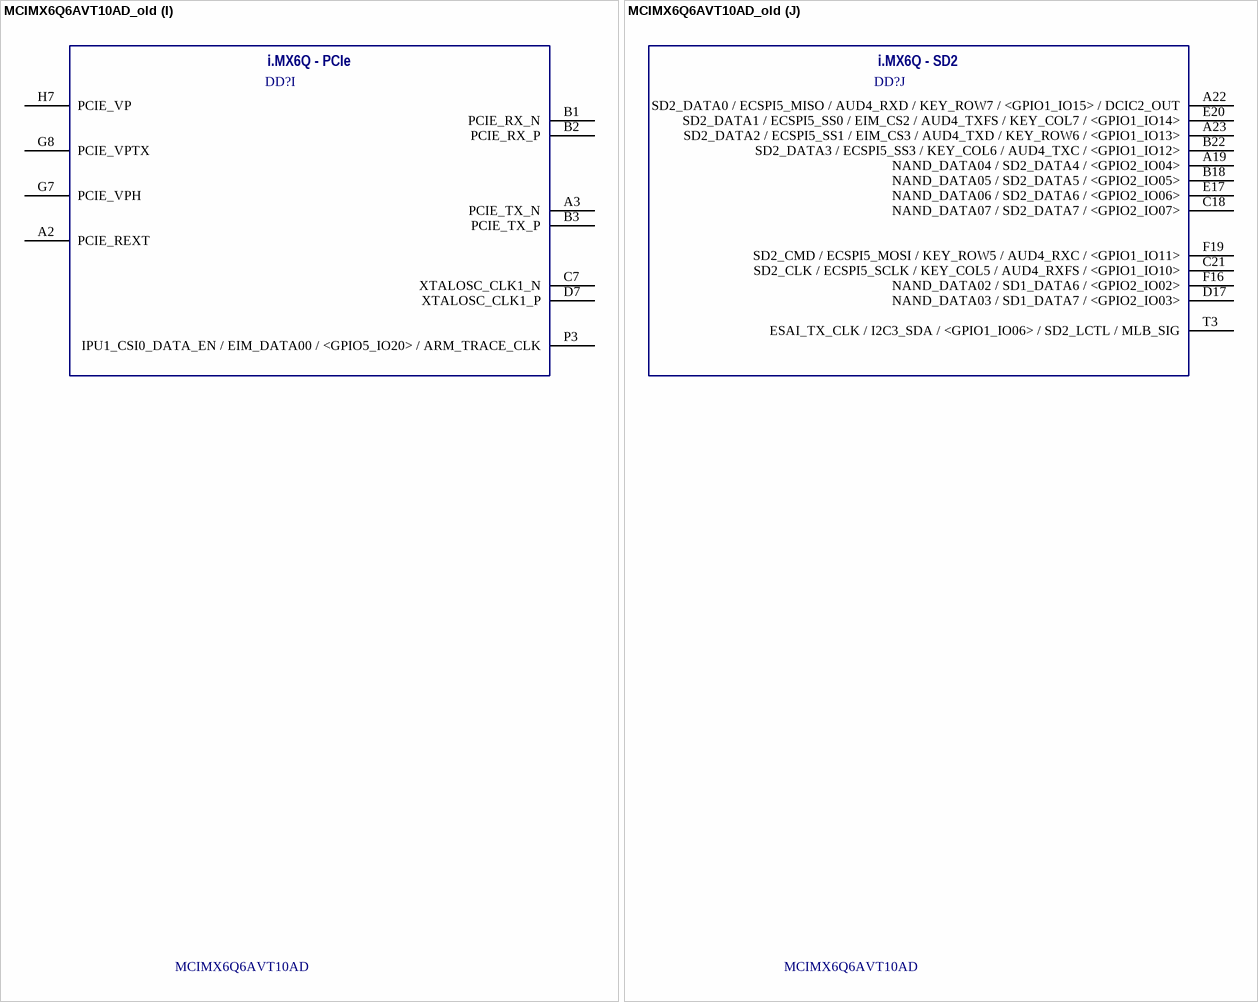
[diagram p26: symbol MCIMX6Q6AVT10AD_old]

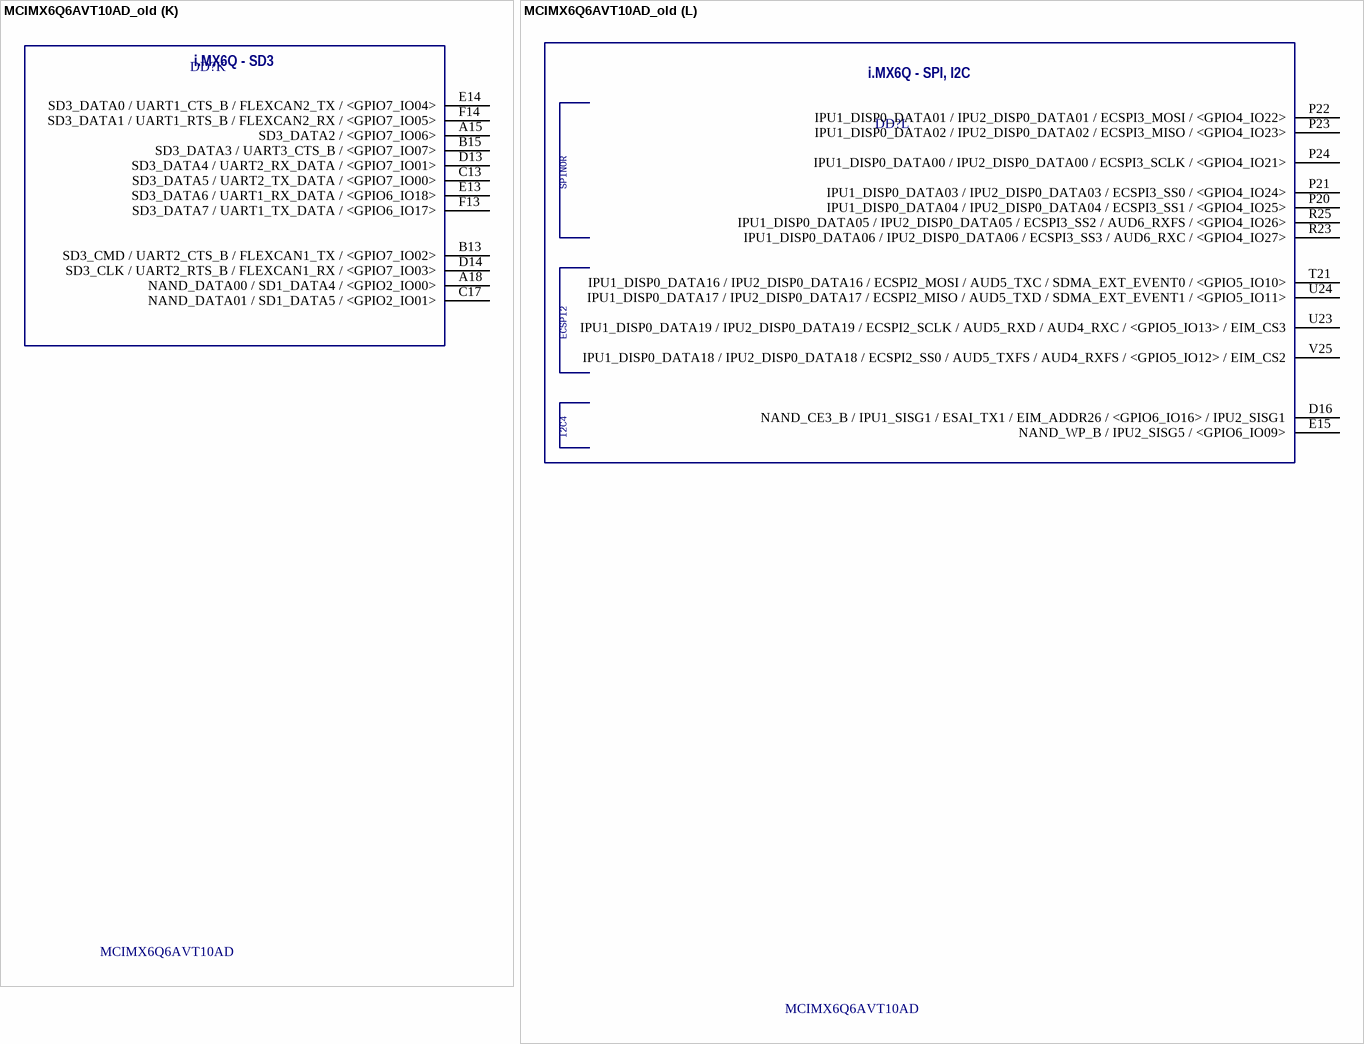
[diagram p27: symbol MCIMX6Q6AVT10AD_old]

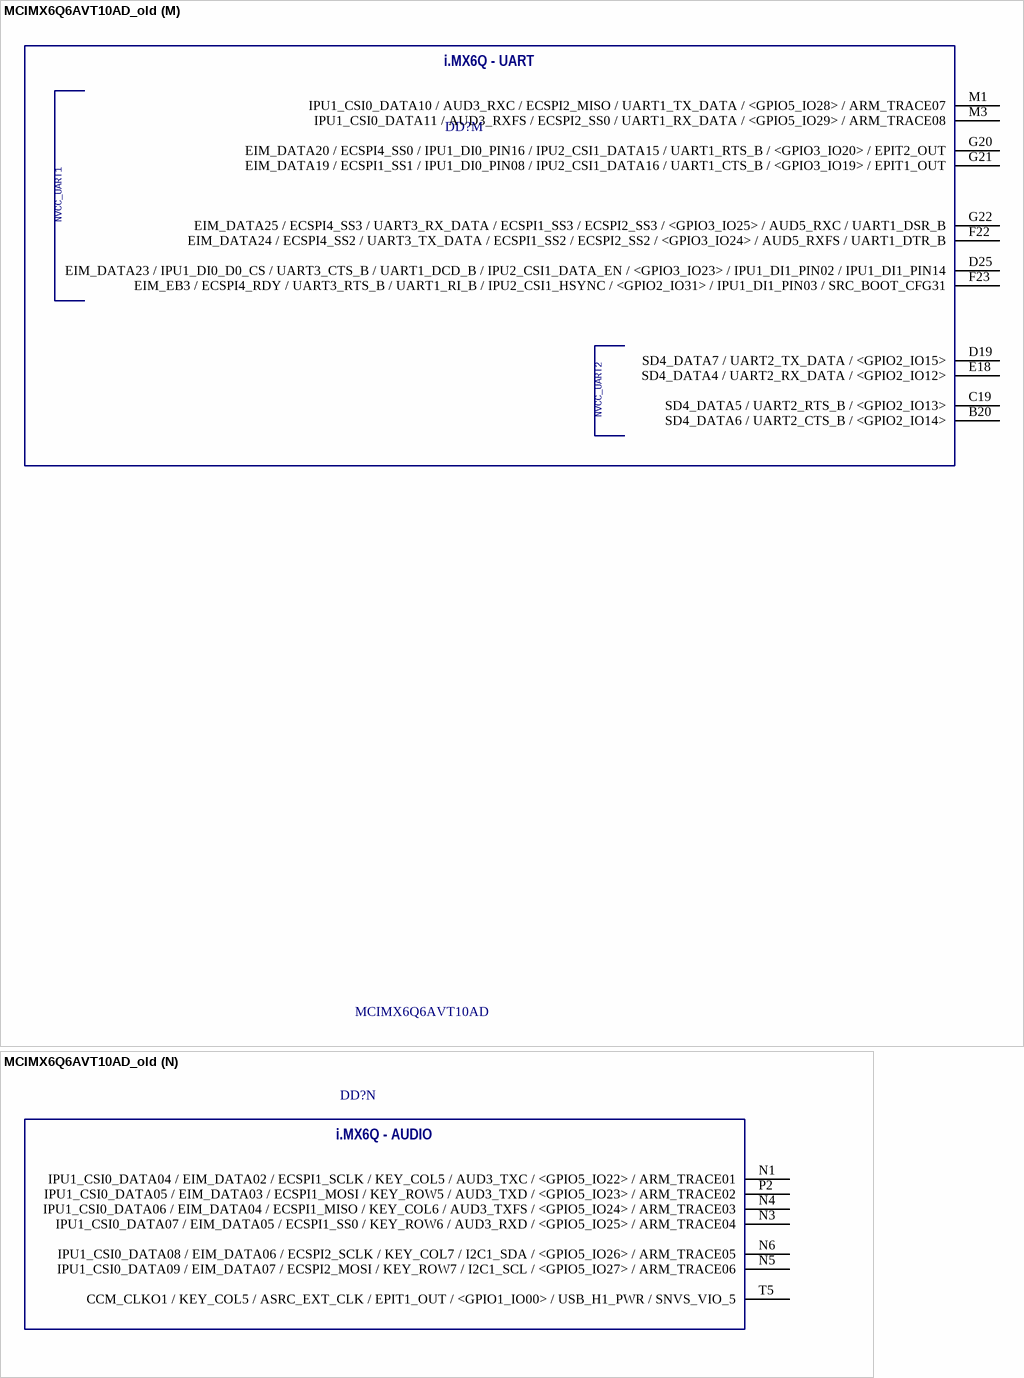
[diagram p28: symbol MCIMX6Q6AVT10AD_old]

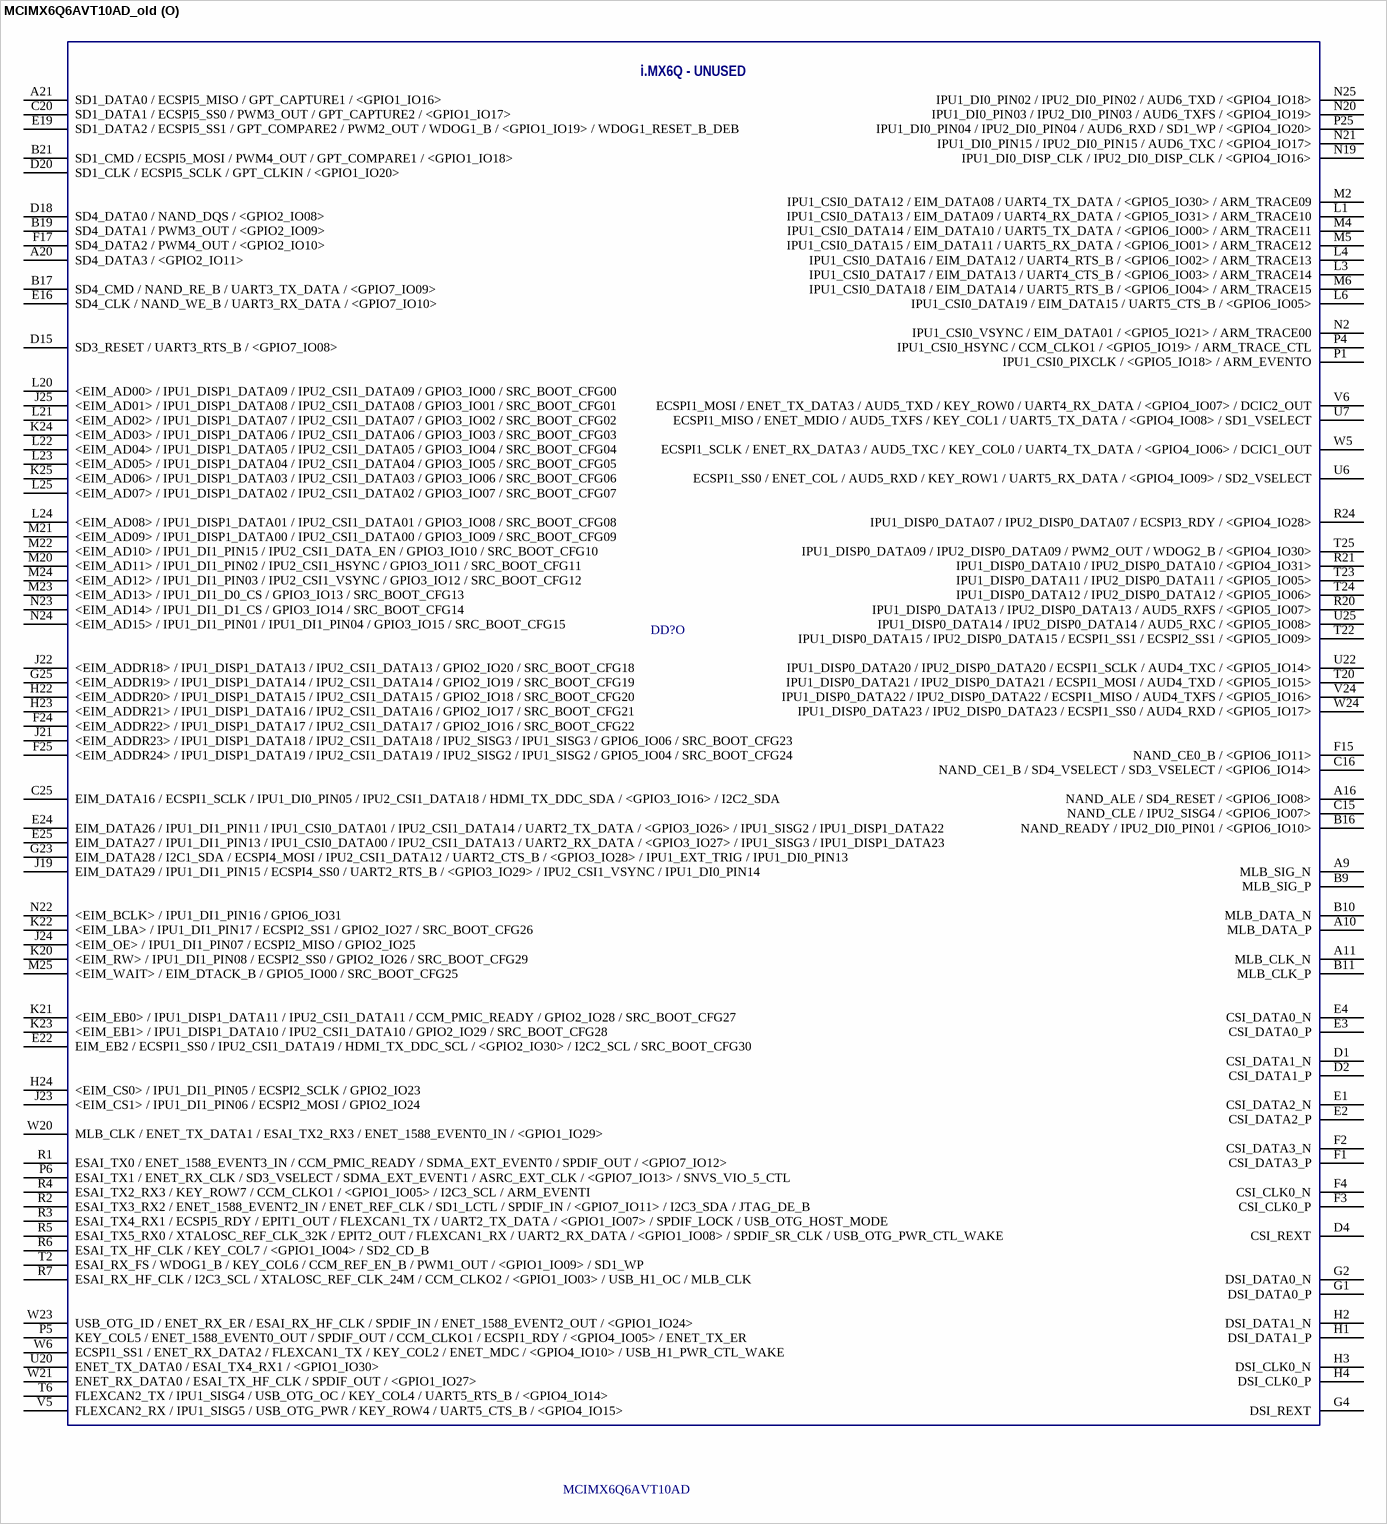
[diagram p29: symbol MCIMX6Q6AVT10AD_old]